# Altium schematic symbol library COMPONENT.SchLib: 111 symbols
Pins are listed as number, name and electrical type; pins without a type are passive.

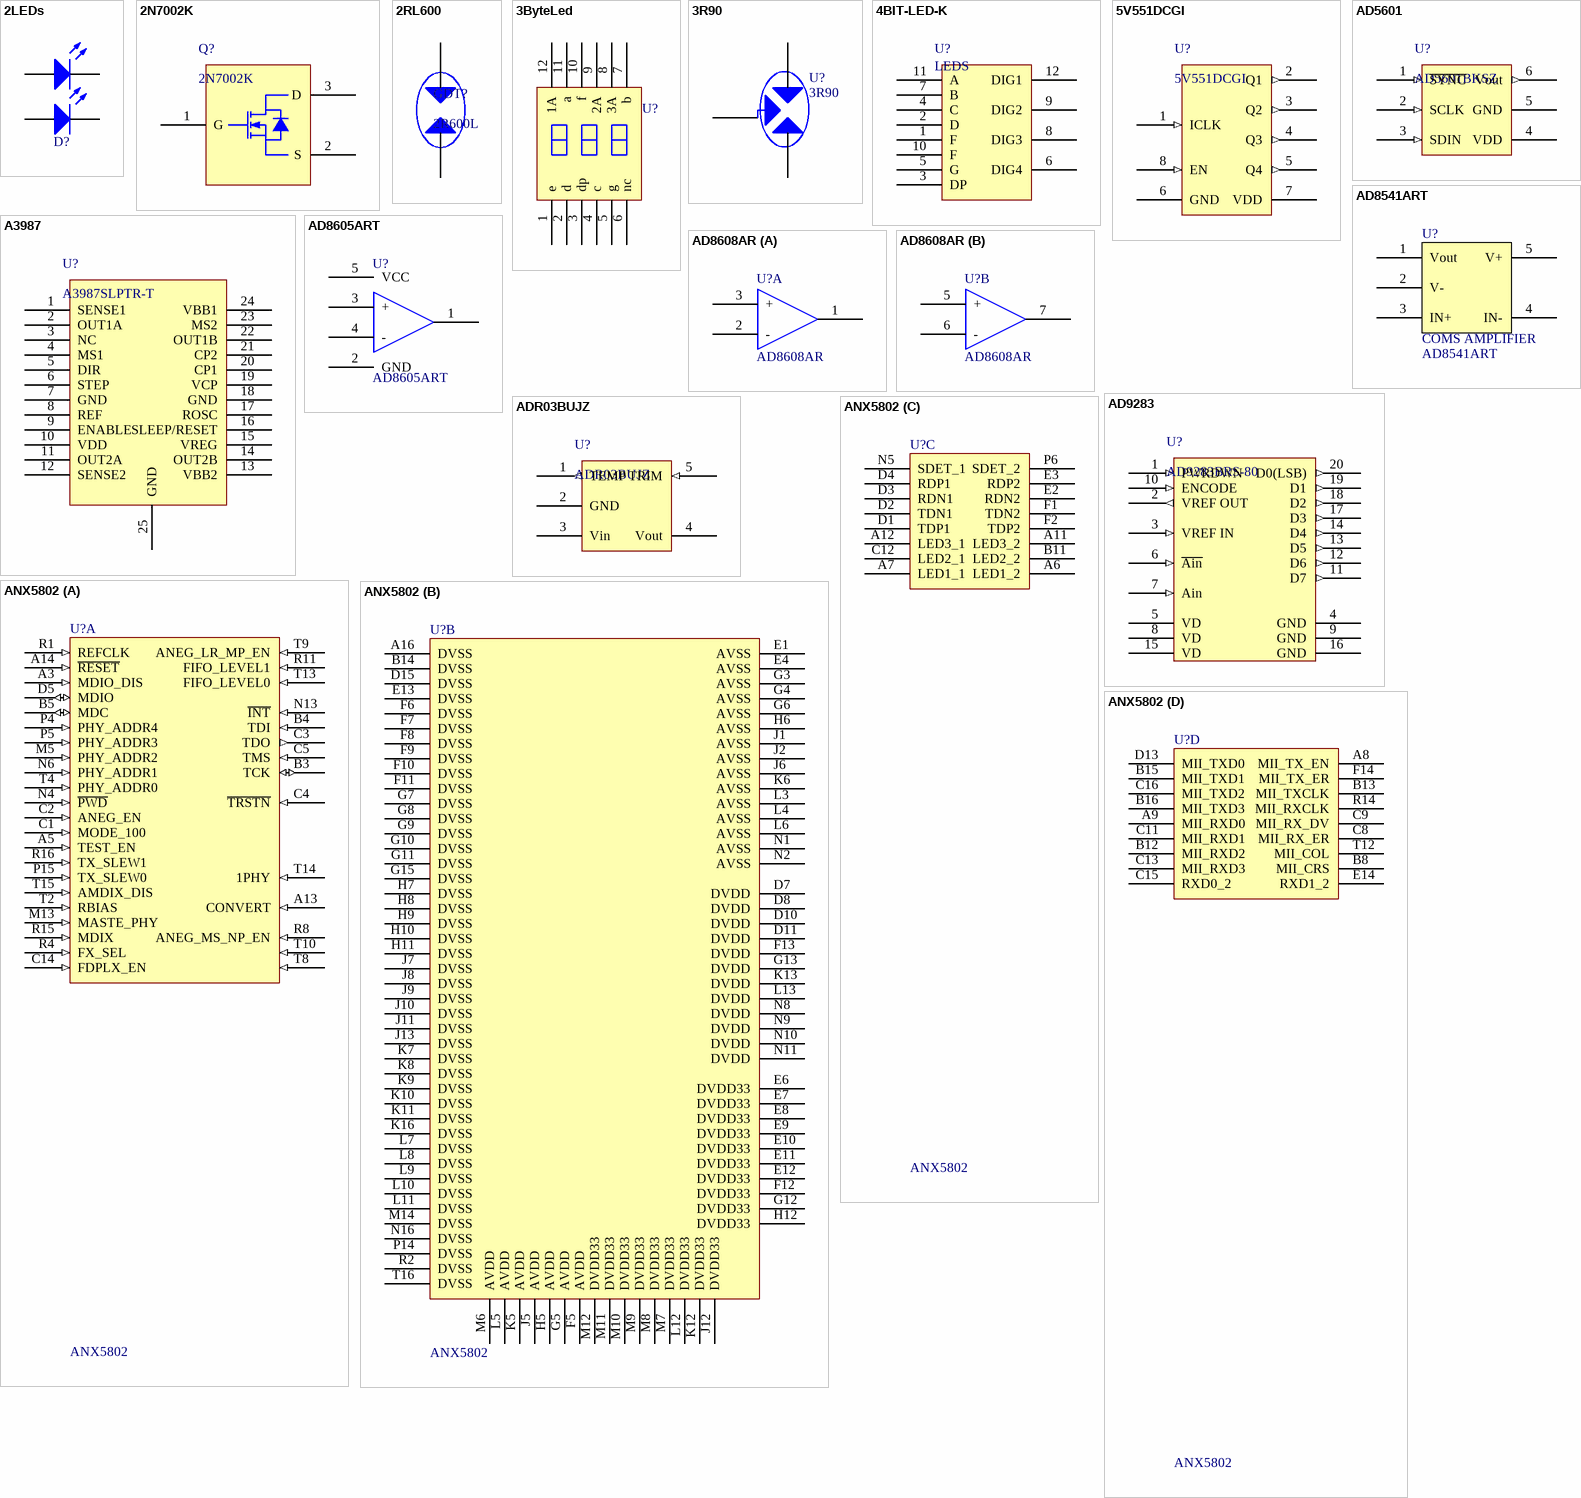
[diagram p0: symbols 2LEDs to ANX5802]

## 2LEDs
designator D?, comment 2 LED Jack  (value not drawn)
Value: Leds
footprint LED_JACK2 (TWO LEDS VERTICAL)
pins: 1 A, 2 K, 3 A, 4 K

## 2N7002K
designator Q?
N-CHANNEL 60-V MOSFET
footprint SO-G3 (SOT-23; 3 Leads; Body 3.0 x 2.6 mm, inc. leads (LxW max))
pins: 1 G, 2 S, 3 D

## 2RL600
designator GDT?, comment 2R600L
footprint 2RM600
pins: 1, 2

## 3ByteLed
designator U?, comment 3 Byte Led Didsplay  (value not drawn)
7-Segment Display 3Byte
footprint 3B/LED
pins: 1 e, 2 d, 3 dp, 4 c, 5 g, 6 nc, 7 b, 8 3A, 9 2A, 10 f, 11 a, 12 1A

## 3R90
designator U?, comment value 3R90  (hidden comment: SURGE ARRESTER)
footprint 3r90 (Surge arrester)
pins: 1, 2, 3

## 4BIT-LED-K
designator U?, comment LEDS
4位共阴7段数码管
footprint 4bit_LEDs (4位共阴LED)
pins: 1 F, 2 D, 3 DP, 4 C, 5 G, 6 DIG4, 7 B, 8 DIG3, 9 DIG2, 10 F, 11 A, 12 DIG1

## 5V551DCGI
designator U?
1:4 CLOCK BUFFER; MANUFACTOR: IDT
footprint SOP8 (Small Outline; 8 Leads; Body Width 4.3 mm; Pitch 1.27 mm)
pins: 1 ICLK (in), 2 Q1 (out), 3 Q2 (out), 4 Q3 (out), 5 Q4 (out), 6 GND (power), 7 VDD (power), 8 EN (in)

## A3987
designator U?, comment A3987SLPTR-T
DMOS MICROSTEPPING DRIVER
footprint TSOP65P640X120_HS-24M (TSOP, 24-Leads, Body 7.8x4.4mm (max), Pitch 0.65mm, IPC Low Density)
pins: 1 SENSE1, 2 OUT1A, 3 NC, 4 MS1, 5 DIR, 6 STEP, 7 GND, 8 REF, 9 ENABLE, 10 VDD, 11 OUT2A, 12 SENSE2, 13 VBB2, 14 OUT2B, 15 VREG, 16 SLEEP/RESET, 17 ROSC, 18 GND, 19 VCP, 20 CP1, 21 CP2, 22 OUT1B, 23 MS2, 24 VBB1, 25 GND

## AD5601
designator U?, comment AD5601BKSZ
nanoDAC SPI INTERFACE
footprint SOT363-6N (SOT363, 6-Leads, Body 2x1.3mm, Pitch 0.65mm, Lead Span 2.1mm, IPC Medium Density)
pins: 1 ~{SYNC} (in), 2 SCLK (in), 3 SDIN (in), 4 VDD (power), 5 GND (power), 6 Vout (out)

## AD8541ART
designator U?, comment COMS AMPLIFIER  value AD8541ART
footprint SO-G5/P.95 (SOT-23/SC-74A; 5 Leads; Body 3.1 x 3 mm, inc. leads (LxW max))
pins: 1 Vout, 2 V-, 3 IN+, 4 IN-, 5 V+

## AD8605ART
designator U?
footprint SO-G5/X.5 (SOT-23/SC-74A; 5 Leads; Body 3 x 3 mm, inc. leads (LxW max))
pins: 1 OUT (power), 2 GND (power), 3 + (power), 4 - (power), 5 VCC (power)

## AD8608AR
designator U?
footprint SO-G8 (Small Outline; 8 Leads; Body Width 3.9 mm; Pitch 1.27 mm)
pins on every part: 4 GND (power) hidden, 8 VCC (power) hidden
part A pins: 1 OUT (power), 2 - (power), 3 + (power)
part B pins: 5 + (power), 6 - (power), 7 OUT (power)

## AD9283
designator U?, comment AD9283BRS-80
8-BIT 80MSPS A/D CONVERTER
footprint TSOP65P640-20AM (TSOP, 20-Leads, Body 6.5x4.4mm, Pitch 0.65mm, IPC Low Density)
pins: 1 PWRDWN (in), 2 VREF OUT (out), 3 VREF IN (in), 4 GND (power), 5 VD (power), 6 ~{Ain} (in), 7 Ain (in), 8 VD (power), 9 GND (power), 10 ENCODE (in), 11 D7 (out), 12 D6 (out), 13 D5 (out), 14 D4 (out), 15 VD (power), 16 GND (power), 17 D3 (out), 18 D2 (out), 19 D1 (out), 20 D0(LSB) (out)

## ADR03BUJZ
designator U?
PRECISION VOLTAGE REFERENCE
footprint SOT23-5AL (SOT23, 5-Leads, Body 2.9x1.6mm, Pitch 0.95mm, Lead Span 2.8mm, IPC High Density)
pins: 1 TEMP (out), 2 GND, 3 Vin, 4 Vout, 5 TRIM (in)

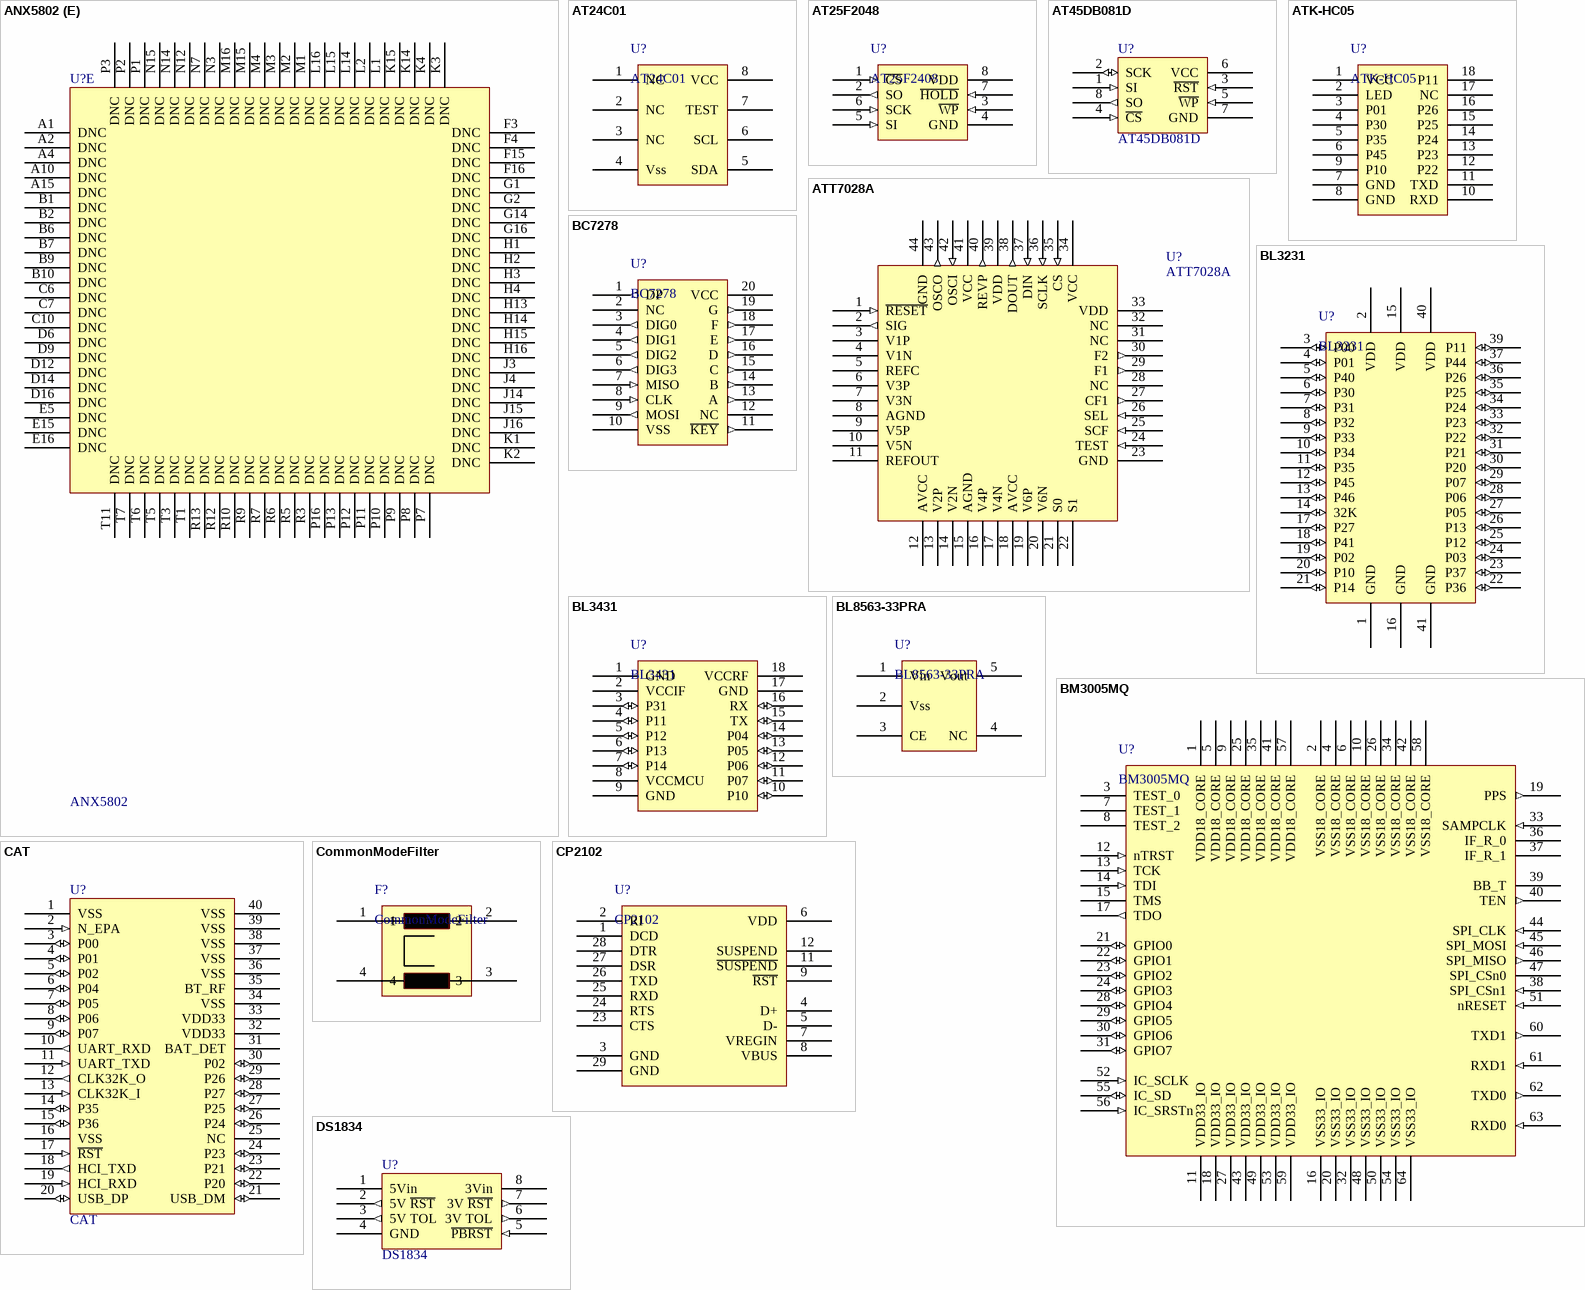
[diagram p1: symbols ANX5802 to DS1834]

## ANX5802
designator U?
SINGLE PORT LRE PHY/CONVERTER
footprint 256BGA (BGA FOR ANX58XX)
part A pins: A3 MDIO_DIS (in), A5 TEST_EN (in), A13 CONVERT (in), A14 ~{RESET} (in), B3 TCK (io), B4 TDI (in), B5 MDC (io), C1 MODE_100 (in), C2 ANEG_EN (in), C3 TDO (out), C4 ~{TRSTN} (in), C5 TMS (in), C14 FDPLX_EN (in), D5 MDIO (io), M5 PHY_ADDR2 (in), M13 MASTE_PHY (in), N4 ~{PWD} (in), N6 PHY_ADDR1 (in), N13 ~{INT} (in), P4 PHY_ADDR4 (in), P5 PHY_ADDR3 (in), P15 TX_SLEW0 (in), R1 REFCLK (in), R4 FX_SEL (in), R8 ANEG_MS_NP_EN (in), R11 FIFO_LEVEL1 (in), R15 MDIX (in), R16 TX_SLEW1 (in), T2 RBIAS (in), T4 PHY_ADDR0 (in), T8 (in), T9 ANEG_LR_MP_EN (in), T10 (in), T13 FIFO_LEVEL0 (in), T14 1PHY (in), T15 AMDIX_DIS (in)
part B pins: A16 DVSS (power), B14 DVSS (power), D7 DVDD (power), D8 DVDD (power), D10 DVDD (power), D11 DVDD (power), D15 DVSS (power), E1 AVSS (power), E4 AVSS (power), E6 DVDD33 (power), E7 DVDD33 (power), E8 DVDD33 (power), E9 DVDD33 (power), E10 DVDD33 (power), E11 DVDD33 (power), E12 DVDD33 (power), E13 DVSS (power), F5 AVDD (power), F6 DVSS (power), F7 DVSS (power), F8 DVSS (power), F9 DVSS (power), F10 DVSS (power), F11 DVSS (power), F12 DVDD33 (power), F13 DVDD (power), G3 AVSS (power), G4 AVSS (power), G5 AVDD (power), G6 AVSS (power), G7 DVSS (power), G8 DVSS (power), G9 DVSS (power), G10 DVSS (power), G11 DVSS (power), G12 DVDD33 (power), G13 DVDD (power), G15 DVSS (power), H5 AVDD (power), H6 AVSS (power), H7 DVSS (power), H8 DVSS (power), H9 DVSS (power), H10 DVSS (power), H11 DVSS (power), H12 DVDD33 (power), J1 AVSS (power), J2 AVSS (power), J5 AVDD (power), J6 AVSS (power), J7 DVSS (power), J8 DVSS (power), J9 DVSS (power), J10 DVSS (power), J11 DVSS (power), J12 DVDD33 (power), J13 DVSS (power), K5 AVDD (power), K6 AVSS (power), K7 DVSS (power), K8 DVSS (power), K9 DVSS (power), K10 DVSS (power), K11 DVSS (power), K12 DVDD33 (power), K13 DVDD (power), K16 DVSS (power), L3 AVSS (power), L4 AVSS (power), L5 AVDD (power), L6 AVSS (power), L7 DVSS (power), L8 DVSS (power), L9 DVSS (power), L10 DVSS (power), L11 DVSS (power), L12 DVDD33 (power), L13 DVDD (power), M6 AVDD (power), M7 DVDD33 (power), M8 DVDD33 (power), M9 DVDD33 (power), M10 DVDD33 (power), M11 DVDD33 (power), M12 DVDD33 (power), M14 DVSS (power), N1 AVSS (power), N2 AVSS (power), N8 DVDD (power), N9 DVDD (power), N10 DVDD (power), N11 DVDD (power), N16 DVSS (power), P14 DVSS (power), R2 DVSS (power), T16 DVSS (power)
part C pins: A6 LED1_2, A7 LED1_1, A11 LED3_2, A12 LED3_1, B11 LED2_2, C12 LED2_1, D1 TDP1, D2 TDN1, D3 RDN1, D4 RDP1, E2 RDN2, E3 RDP2, F1 TDN2, F2 TDP2, N5 SDET_1, P6 SDET_2
part D pins: A8 MII_TX_EN, A9 MII_RXD0, B8 MII_CRS, B12 MII_RXD2, B13 MII_TXCLK, B15 MII_TXD1, B16 MII_TXD3, C8 MII_RX_ER, C9 MII_RX_DV, C11 MII_RXD1, C13 MII_RXD3, C15 RXD0_2, C16 MII_TXD2, D13 MII_TXD0, E14 RXD1_2, F14 MII_TX_ER, R14 MII_RXCLK, T12 MII_COL
part E pins: A1 DNC, A2 DNC, A4 DNC, A10 DNC, A15 DNC, B1 DNC, B2 DNC, B6 DNC, B7 DNC, B9 DNC, B10 DNC, C6 DNC, C7 DNC, C10 DNC, D6 DNC, D9 DNC, D12 DNC, D14 DNC, D16 DNC, E5 DNC, E15 DNC, E16 DNC, F3 DNC, F4 DNC, F15 DNC, F16 DNC, G1 DNC, G2 DNC, G14 DNC, G16 DNC, H1 DNC, H2 DNC, H3 DNC, H4 DNC, H13 DNC, H14 DNC, H15 DNC, H16 DNC, J3 DNC, J4 DNC, J14 DNC, J15 DNC, J16 DNC, K1 DNC, K2 DNC, K3 DNC, K4 DNC, K14 DNC, K15 DNC, L1 DNC, L2 DNC, L14 DNC, L15 DNC, L16 DNC, M1 DNC, M2 DNC, M3 DNC, M4 DNC, M15 DNC, M16 DNC, N3 DNC, N7 DNC, N12 DNC, N14 DNC, N15 DNC, P1 DNC, P2 DNC, P3 DNC, P7 DNC, P8 DNC, P9 DNC, P10 DNC, P11 DNC, P12 DNC, P13 DNC, P16 DNC, R3 DNC, R5 DNC, R6 DNC, R7 DNC, R9 DNC, R10 DNC, R12 DNC, R13 DNC, T1 DNC, T3 DNC, T5 DNC, T6 DNC, T7 DNC, T11 DNC

## AT24C01
designator U?
footprint SO-G8 (Small Outline; 8 Leads; Body Width 3.9 mm; Pitch 1.27 mm)
pins: 1 NC, 2 NC, 3 NC, 4 Vss, 5 SDA, 6 SCL, 7 TEST, 8 VCC

## AT25F2048
designator U?, comment AT25F2408
2M BIT SPI FLASH
footprint SOP127P780-8M (SOP, 8-Leads, Body 5.3x5.3mm, Pitch 1.27mm, IPC Low Density)
pins: 1 ~{CS} (in), 2 SO (out), 3 ~{WP} (in), 4 GND (power), 5 SI (in), 6 SCK (in), 7 ~{HOLD} (in), 8 VDD (power)

## AT45DB081D
designator U?
8 MB DATA FLASH; Company: AT
footprint SO-G8 (Small Outline; 8 Leads; Body Width 3.9 mm; Pitch 1.27 mm)
pins: 1 SI (in), 2 SCK (io), 3 ~{RST} (in), 4 ~{CS} (in), 5 ~{WP} (in), 6 VCC (power), 7 GND (power), 8 SO (out)

## ATK-HC05
designator U?
蓝牙模块
footprint atk-hc05 (蓝牙转串口模块)
pins: 1 VCC, 2 LED, 3 P01, 4 P30, 5 P35, 6 P45, 7 GND, 8 GND, 9 P10, 10 RXD, 11 TXD, 12 P22, 13 P23, 14 P24, 15 P25, 16 P26, 17 NC, 18 P11

## ATT7028A
designator U?
ENERGY METER
footprint QFP10x10-G44/G10N (QFP, Metric; 44 Leads; Body 10 x 10 mm; Pitch 0.8 mm)
pins: 1 ~{RESET} (in), 2 SIG (out), 3 V1P, 4 V1N, 5 REFC (power), 6 V3P, 7 V3N, 8 AGND (power), 9 V5P, 10 V5N, 11 REFOUT (power), 12 AVCC (power), 13 V2P, 14 V2N, 15 AGND (power), 16 V4P, 17 V4N, 18 AVCC (power), 19 V6P, 20 V6N, 21 S0, 22 S1, 23 GND (power), 24 TEST (in), 25 SCF (in), 26 SEL (in), 27 CF1 (out), 28 NC, 29 F1 (out), 30 F2 (out), 31 NC, 32 NC, 33 VDD (power), 34 VCC (power), 35 CS (in), 36 SCLK (in), 37 DIN (in), 38 DOUT (out), 39 VDD (power), 40 REVP (out), 41 VCC (power), 42 OSCI (in), 43 OSCO (out), 44 GND (power)

## BC7278
designator U?
4位数码管驱动+键盘
footprint SOP65P780X173-20N (SOP, 20-Leads, Body 7.2x5.3mm (max), Pitch 0.65mm, IPC Medium Density)
pins: 1 DP (out), 2 NC, 3 DIG0 (out), 4 DIG1 (out), 5 DIG2 (out), 6 DIG3 (out), 7 MISO (in), 8 CLK (in), 9 MOSI (out), 10 VSS, 11 ~{KEY} (out), 12 NC, 13 A (out), 14 B (out), 15 C (out), 16 D (out), 17 E (out), 18 F (out), 19 G (out), 20 VCC

## BL3231
designator U?
蓝牙模块
footprint BL3231 (蓝牙模块)
pins: 1 GND, 2 VDD, 3 P00 (io), 4 P01 (io), 5 P40 (io), 6 P30 (io), 7 P31 (io), 8 P32 (io), 9 P33 (io), 10 P34 (io), 11 P35 (io), 12 P45 (io), 13 P46 (io), 14 32K (io), 15 VDD, 16 GND, 17 P27 (io), 18 P41 (io), 19 P02 (io), 20 P10 (io), 21 P14 (io), 22 P36 (io), 23 P37 (io), 24 P03 (io), 25 P12 (io), 26 P13 (io), 27 P05 (io), 28 P06 (io), 29 P07 (io), 30 P20 (io), 31 P21 (io), 32 P22 (io), 33 P23 (io), 34 P24 (io), 35 P25 (io), 36 P26 (io), 37 P44 (io), 39 P11 (io), 40 VDD, 41 GND

## BL3431
designator U?
蓝牙模块
footprint bl3431s (蓝牙模块)
pins: 1 GND, 2 VCCIF, 3 P31 (io), 4 P11 (io), 5 P12 (io), 6 P13 (io), 7 P14 (io), 8 VCCMCU, 9 GND, 10 P10 (io), 11 P07 (io), 12 P06 (io), 13 P05 (io), 14 P04 (io), 15 TX (io), 16 RX (io), 17 GND, 18 VCCRF

## BL8563-33PRA
designator U?
footprint SOT23-5AM (SOT23, 5-Leads, Body 2.9x1.7mm, Pitch 0.95mm, Lead Span 2.8mm, IPC Low Density)
pins: 1 Vin, 2 Vss, 3 CE, 4 NC, 5 Vout

## BM3005MQ
designator U?
RDSS Base Band Chip
footprint SQFP50P1200X1200-64L (Shrink QFP, 64-Leads, Body 10x10mm, Pitch 0.5mm, IPC High Density)
pins: 1 VDD18_CORE (power), 2 VSS18_CORE (power), 3 TEST_0, 4 VSS18_CORE (power), 5 VDD18_CORE (power), 6 VSS18_CORE (power), 7 TEST_1, 8 TEST_2, 9 VDD18_CORE (power), 10 VSS18_CORE (power), 11 VDD33_IO (power), 12 nTRST (in), 13 TCK (in), 14 TDI (in), 15 TMS, 16 VSS33_IO (power), 17 TDO (out), 18 VDD33_IO (power), 19 PPS (out), 20 VSS33_IO (power), 21 GPIO0 (io), 22 GPIO1 (io), 23 GPIO2 (io), 24 GPIO3 (io), 25 VDD18_CORE (power), 26 VSS18_CORE (power), 27 VDD33_IO (power), 28 GPIO4 (io), 29 GPIO5 (io), 30 GPIO6 (io), 31 GPIO7 (io), 32 VSS33_IO (power), 33 SAMPCLK (in), 34 VSS18_CORE (power), 35 VDD18_CORE (power), 36 IF_R_0, 37 IF_R_1, 38 SPI_CSn1 (in), 39 BB_T, 40 TEN (out), 41 VDD18_CORE (power), 42 VSS18_CORE (power), 43 VDD33_IO (power), 44 SPI_CLK (in), 45 SPI_MOSI (in), 46 SPI_MISO (out), 47 SPI_CSn0, 48 VSS33_IO (power), 49 VDD33_IO (power), 50 VSS33_IO (power), 51 nRESET (in), 52 IC_SCLK (in), 53 VDD33_IO (power), 54 VSS33_IO (power), 55 IC_SD (io), 56 IC_SRSTn (in), 57 VDD18_CORE (power), 58 VSS18_CORE (power), 59 VDD33_IO (power), 60 TXD1 (out), 61 RXD1 (in), 62 TXD0 (out), 63 RXD0 (in), 64 VSS33_IO (power)

## CAT
designator U?, comment value CAT  (hidden comment: BLUETOOTH)
BLUETOOTH MODULE; Company: ISSC
footprint CAT MODULE (FOR ISS CAT MODULE)
pins: 1 VSS (power), 2 N_EPA (in), 3 P00 (io), 4 P01 (io), 5 P02 (io), 6 P04 (io), 7 P05 (io), 8 P06 (io), 9 P07 (io), 10 UART_RXD (out), 11 UART_TXD (in), 12 CLK32K_O (out), 13 CLK32K_I (in), 14 P35 (io), 15 P36 (io), 16 VSS (power), 17 ~{RST} (in), 18 HCI_TXD (out), 19 HCI_RXD (in), 20 USB_DP (io), 21 USB_DM (io), 22 P20 (io), 23 P21 (io), 24 P23 (io), 25 NC, 26 P24 (io), 27 P25 (io), 28 P27 (io), 29 P26 (io), 30 P02 (io), 31 BAT_DET (power), 32 VDD33 (power), 33 VDD33 (power), 34 VSS (power), 35 BT_RF (power), 36 VSS (power), 37 VSS (power), 38 VSS (power), 39 VSS (power), 40 VSS (power)

## CommonModeFilter
designator F?
footprint LFU1005V07 (COMMON MODE FILTER)
pins: 1, 2, 3, 4

## CP2102
designator U?
USB BRIDGE
footprint QFN-28
pins: 1 DCD, 2 RI, 3 GND, 4 D+, 5 D-, 6 VDD, 7 VREGIN, 8 VBUS, 9 ~{RST}, 11 ~{SUSPEND}, 12 SUSPEND, 23 CTS, 24 RTS, 25 RXD, 26 TXD, 27 DSR, 28 DTR, 29 GND

## DS1834
designator U?
footprint SO-G8 (Small Outline; 8 Leads; Body Width 3.9 mm; Pitch 1.27 mm)
pins: 1 5Vin (power), 2 5V ~{RST} (out), 3 5V TOL (out), 4 GND (power), 5 ~{PBRST} (in), 6 3V TOL (out), 7 3V ~{RST} (out), 8 3Vin (power)

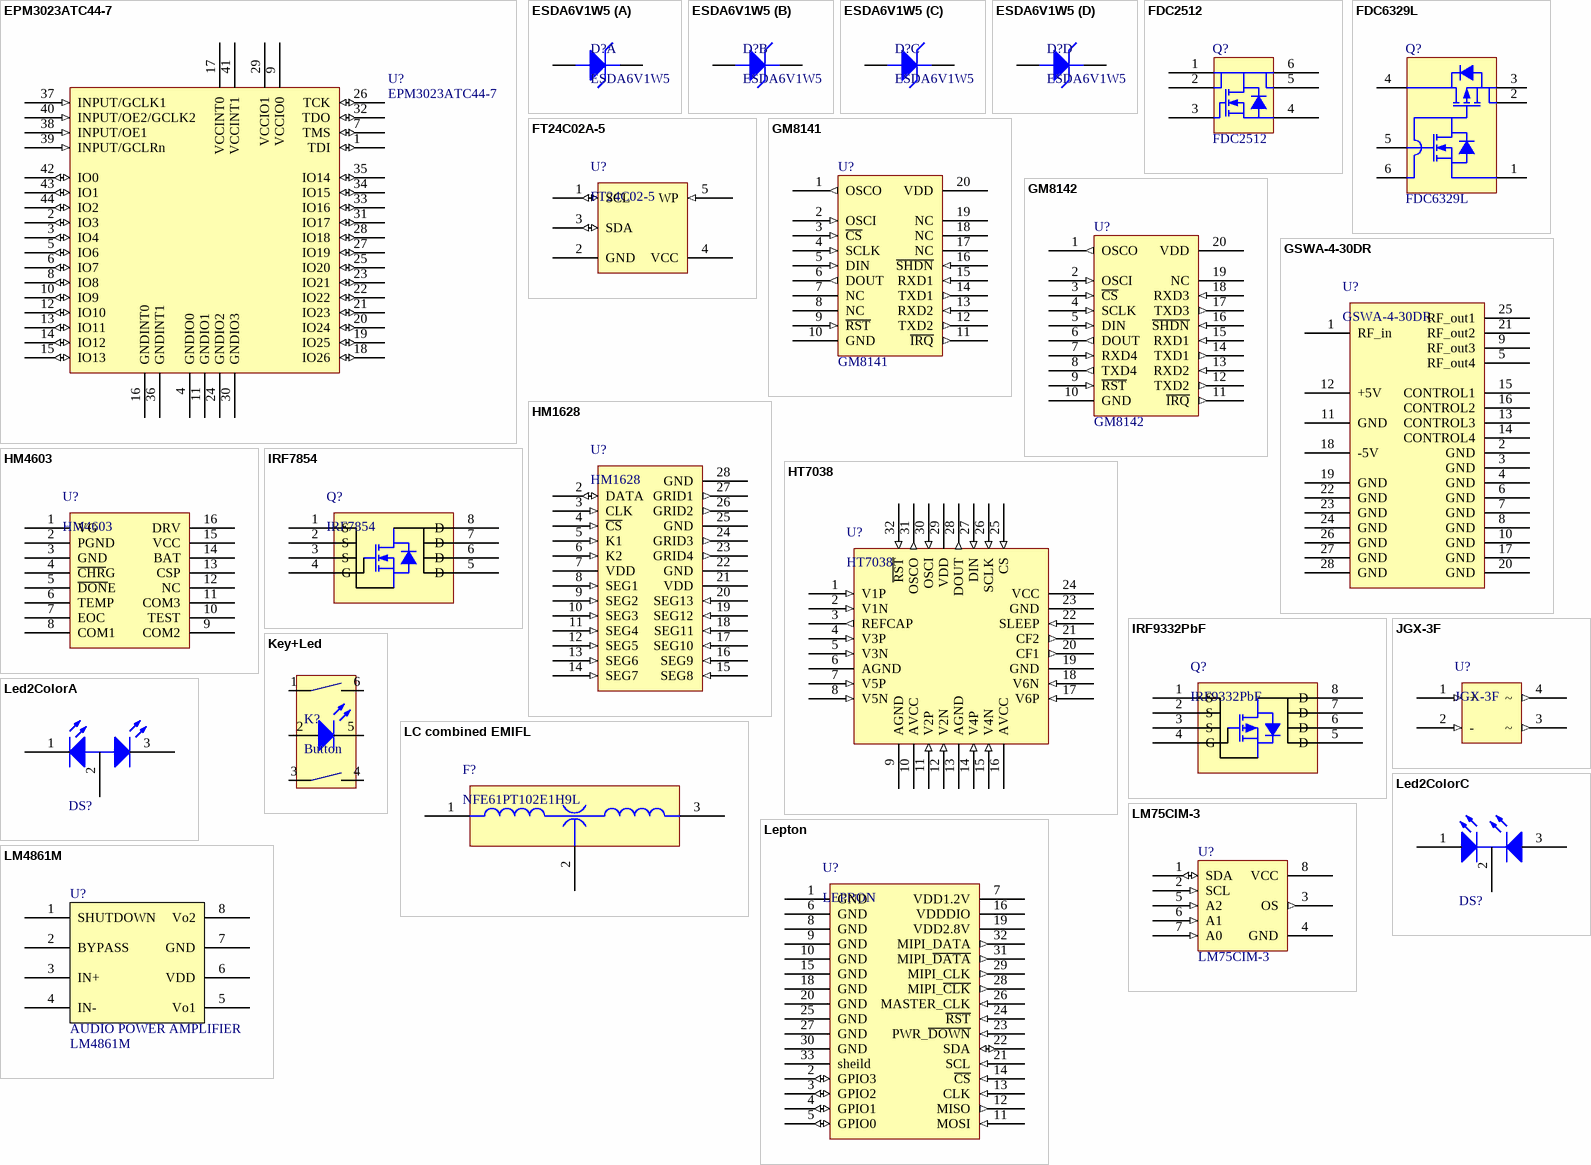
[diagram p2: symbols EPM3023ATC44-7 to LM4861M]

## EPM3023ATC44-7
designator U?
footprint QFP10x10-G44/G10N (QFP, Metric; 44 Leads; Body 10 x 10 mm; Pitch 0.8 mm)
pins: 1 TDI (io), 2 IO3 (io), 3 IO4 (io), 4 GNDIO0 (power), 5 IO6 (io), 6 IO7 (io), 7 TMS (io), 8 IO8 (io), 9 VCCIO0 (power), 10 IO9 (io), 11 GNDIO1 (power), 12 IO10 (io), 13 IO11 (io), 14 IO12 (io), 15 IO13 (io), 16 GNDINT0 (power), 17 VCCINT0 (power), 18 IO26 (io), 19 IO25 (io), 20 IO24 (io), 21 IO23 (io), 22 IO22 (io), 23 IO21 (io), 24 GNDIO2 (power), 25 IO20 (io), 26 TCK (io), 27 IO19 (io), 28 IO18 (io), 29 VCCIO1 (power), 30 GNDIO3 (power), 31 IO17 (io), 32 TDO (io), 33 IO16 (io), 34 IO15 (io), 35 IO14 (io), 36 GNDINT1 (power), 37 INPUT/GCLK1 (in), 38 INPUT/OE1 (in), 39 INPUT/GCLRn (in), 40 INPUT/OE2/GCLK2 (in), 41 VCCINT1 (power), 42 IO0 (io), 43 IO1 (io), 44 IO2 (io)

## ESDA6V1W5
designator D?
QUAL TRANSIL ARRAY FOR ESD PROTECTION; MANUFACTOR: ST
footprint SO-G5/P.65 (SOT-353/SC-88A; 5 Leads; Body 2.1 x 2.4 mm, inc. leads (LxW max))
part A pins: 1, 2
part B pins: 2, 3
part C pins: 2, 4
part D pins: 2, 5

## FDC2512
designator Q?
footprint SuperSOT-6 (FOR FDC2512)
pins: 1 D, 2 D, 3 G, 4 S, 5 D, 6 D

## FDC6329L
designator Q?
LOAD SWITCH
footprint SO-G6/P.95 (SOT-457/SC-74; 6 Leads; Body 3.1 x 3 mm, inc. leads (LxW max))
pins: 1 S2, 2 VOUT (power), 3 VOUT (power), 4 VIN (power), 5 G2, 6 D2

## FT24C02A-5
designator U?, comment FT24C02-5
EEPROM
footprint SOT23-5AM (SOT23, 5-Leads, Body 2.9x1.7mm, Pitch 0.95mm, Lead Span 2.8mm, IPC Low Density)
pins: 1 SCL (io), 2 GND, 3 SDA (io), 4 VCC, 5 WP (in)

## GM8141
designator U?
Company: 成都国腾; Value: GM8141
footprint SO-G20 (Small Outline; 20 Leads; Body Width 7.5 mm; Pitch 1.27 mm)
pins: 1 OSCO (out), 2 OSCI (in), 3 ~{CS} (in), 4 SCLK (in), 5 DIN (in), 6 DOUT (out), 7 NC, 8 NC, 9 ~{RST} (in), 10 GND (power), 11 ~{IRQ} (out), 12 TXD2 (out), 13 RXD2 (in), 14 TXD1 (out), 15 RXD1 (in), 16 ~{SHDN} (in), 17 NC, 18 NC, 19 NC, 20 VDD (power)

## GM8142
designator U?
I2C to UART
footprint SO-G20 (Small Outline; 20 Leads; Body Width 7.5 mm; Pitch 1.27 mm)
pins: 1 OSCO (out), 2 OSCI (in), 3 ~{CS} (in), 4 SCLK (in), 5 DIN (in), 6 DOUT (out), 7 RXD4 (in), 8 TXD4 (out), 9 ~{RST} (in), 10 GND (power), 11 ~{IRQ} (out), 12 TXD2 (out), 13 RXD2 (in), 14 TXD1 (out), 15 RXD1 (in), 16 ~{SHDN} (in), 17 TXD3 (out), 18 RXD3 (in), 19 NC, 20 VDD (power)

## GSWA-4-30DR
designator U?
50Ohm SP4T,TTL Driver
footprint GSWAQFP28 (FOOTPRINT for GSWA-4-30DR)
pins: 1 RF_in, 2 GND, 3 GND, 4 GND, 5 RF_out4, 6 GND, 7 GND, 8 GND, 9 RF_out3, 10 GND, 11 GND, 12 +5V, 13 CONTROL3, 14 CONTROL4, 15 CONTROL1, 16 CONTROL2, 17 GND, 18 -5V, 19 GND, 20 GND, 21 RF_out2, 22 GND, 23 GND, 24 GND, 25 RF_out1, 26 GND, 27 GND, 28 GND

## HM1628
designator U?
4位LED驱动
footprint SOIC127P1199-28AL (SOIC, 28-Leads, Body 18.4x7.5mm, Pitch 1.27mm, IPC High Density)
pins: 2 DATA (io), 3 CLK (in), 4 ~{CS} (in), 5 K1 (in), 6 K2 (in), 7 VDD, 8 SEG1 (in), 9 SEG2 (in), 10 SEG3 (in), 11 SEG4 (in), 12 SEG5 (in), 13 SEG6 (in), 14 SEG7 (in), 15 SEG8 (in), 16 SEG9 (in), 17 SEG10 (in), 18 SEG11 (in), 19 SEG12 (in), 20 SEG13 (in), 21 VDD, 22 GND, 23 GRID4 (out), 24 GRID3 (out), 25 GND, 26 GRID2 (out), 27 GRID1 (out), 28 GND

## HM4603
designator U?
锂电池充电管理
footprint TSSO5x6-G16 (Shrink Small Outline; 16 Leads; Body Width 4.4 mm; Pitch 0.65 mm)
pins: 1 VG, 2 PGND, 3 GND, 4 ~{CHR}G, 5 ~{DON}E, 6 TEMP, 7 EOC, 8 COM1, 9 COM2, 10 TEST, 11 COM3, 12 NC, 13 CSP, 14 BAT, 15 VCC, 16 DRV

## HT7038
designator U?
电能表IC
footprint QFP80P900X900-32N (32-Pin Quad Flat Pack 0.8 mm Pitch)
pins: 1 V1P (in), 2 V1N (in), 3 REFCAP (out), 4 V3P (in), 5 V3N (in), 6 AGND, 7 V5P (in), 8 V5N (in), 9 AGND, 10 AVCC, 11 V2P (in), 12 V2N (in), 13 AGND, 14 V4P (in), 15 V4N (in), 16 AVCC, 17 V6P (in), 18 V6N (in), 19 GND, 20 CF1 (out), 21 CF2 (out), 22 SLEEP (in), 23 GND, 24 VCC, 25 CS (in), 26 SCLK (in), 27 DIN (in), 28 DOUT (out), 29 VDD, 30 OSCI (in), 31 OSCO (out), 32 ~{RST} (in)

## IRF7854
designator Q?
footprint SOIC127P600-8CN (SOIC, 8-Leads, Body 4.9x3.9mm, Pitch 1.27mm, IPC Medium Density)
pins: 1 S, 2 S, 3 S, 4 G, 5 D, 6 D, 7 D, 8 D

## IRF9332PbF
designator Q?
footprint SO-G8 (Small Outline; 8 Leads; Body Width 3.9 mm; Pitch 1.27 mm)
pins: 1 S, 2 S, 3 S, 4 G, 5 D, 6 D, 7 D, 8 D

## JGX-3F
designator U?
固态继电器
footprint jgx-3f (固态继电器)
pins: 1 + (in), 2 - (in), 3 ~ (out), 4 ~ (out)

## Key+Led
designator K?, comment Button
Button with Led
footprint Key+Led (带LED按键)
pins: 1, 2 A, 3 (power), 4 (power), 5 K (power), 6 (power)

## LC combined EMIFL
designator F?, comment NFE61PT102E1H9L
footprint NFE61PT102E1H9L (EMIFL LC combined)
pins: 1 INPUT, 2 GND, 3 OUTPUT

## Led2ColorA
designator DS?, comment 2 Color Led  (value not drawn)
2 Color Led with one anode
footprint Led2Color (3mm diameter)
pins: 1, 2, 3

## Led2ColorC
designator DS?, comment 2 Color LED  (value not drawn)
2 Color LED with one cathode
footprint Led2color (3mm diameter)
pins: 1, 2, 3

## Lepton
designator U?, comment LEPRON
FLIR IR CAMERA
footprint 1050281001 (flir camera)
pins: 1 GND, 2 GPIO3 (io), 3 GPIO2 (io), 4 GPIO1 (io), 5 GPIO0 (io), 6 GND, 7 VDD1.2V, 8 GND, 9 GND, 10 GND, 11 MOSI (in), 12 MISO (out), 13 CLK (in), 14 ~{CS} (in), 15 GND, 16 VDDDIO, 18 GND, 19 VDD2.8V, 20 GND, 21 SCL (in), 22 SDA (io), 23 PWR_~{DOWN} (in), 24 ~{RST} (in), 25 GND, 26 MASTER_CLK (in), 27 GND, 28 MIPI_~{CLK} (out), 29 MIPI_CLK (out), 30 GND, 31 MIPI_~{DATA} (out), 32 MIPI_DATA (out), 33 sheild

## LM75CIM-3
designator U?
footprint SO-G8 (Small Outline; 8 Leads; Body Width 3.9 mm; Pitch 1.27 mm)
pins: 1 SDA (io), 2 SCL (in), 3 OS (out), 4 GND (power), 5 A2 (in), 6 A1 (in), 7 A0 (in), 8 VCC (power)

## LM4861M
designator U?, comment AUDIO POWER AMPLIFIER  value LM4861M
footprint SO-G8/D5 (Small Outline, Narrow; 8 Leads; Body Width 3.9 mm; Pitch 1.27 mm)
pins: 1 SHUTDOWN, 2 BYPASS, 3 IN+, 4 IN-, 5 Vo1, 6 VDD (power), 7 GND (power), 8 Vo2

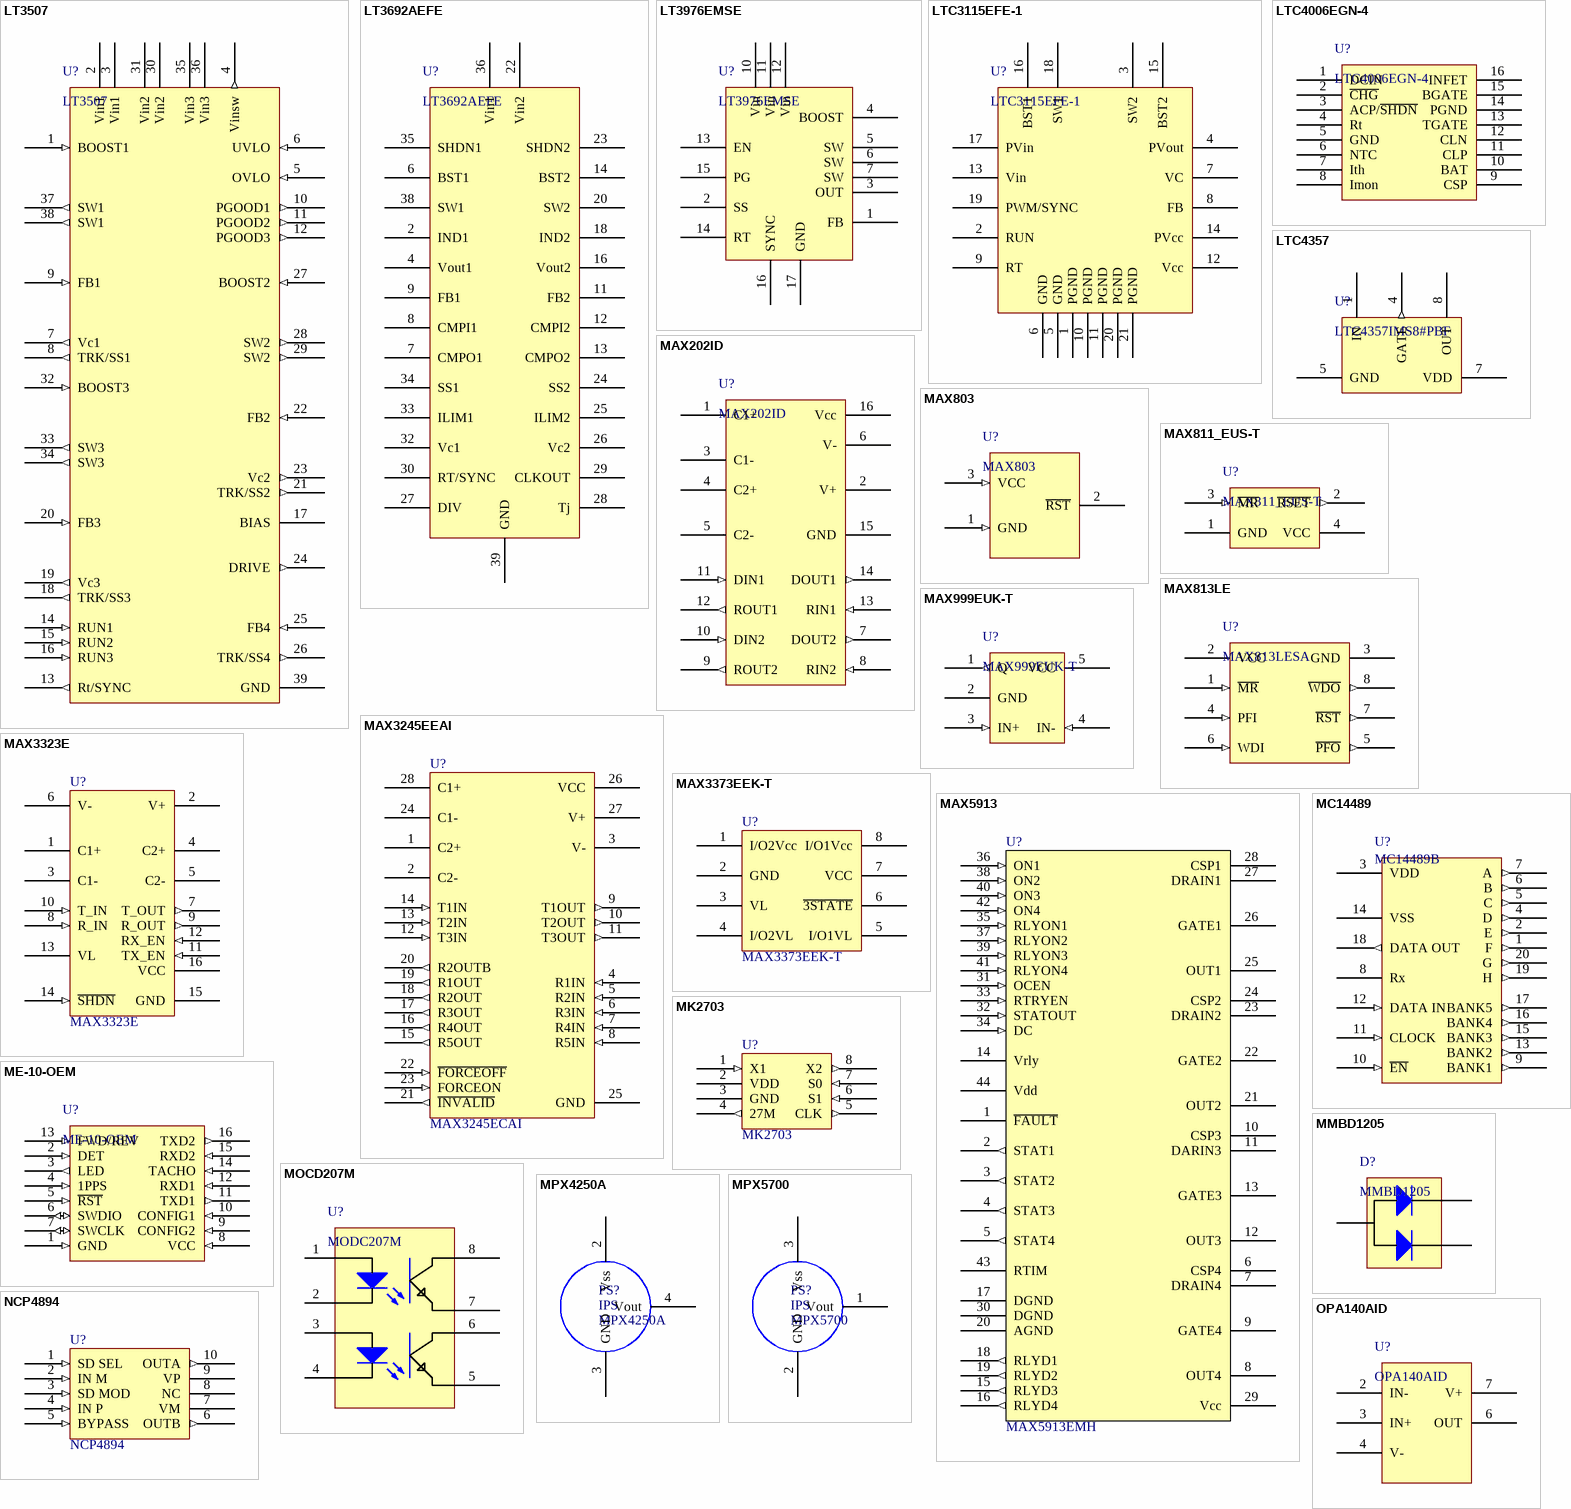
[diagram p3: symbols LT3507 to OPA140AID]

## LT3507
designator U?
Triple Monolithic Step-down Regulator with LDO
footprint QFN38 (For LT3507F)
pins: 1 BOOST1 (in), 2 Vin1 (power), 3 Vin1 (power), 4 Vinsw (out), 5 OVLO (in), 6 UVLO (in), 7 Vc1 (out), 8 TRK/SS1 (out), 9 FB1 (in), 10 PGOOD1 (out), 11 PGOOD2 (out), 12 PGOOD3 (out), 13 Rt/SYNC (out), 14 RUN1 (in), 15 RUN2 (in), 16 RUN3 (in), 17 BIAS (power), 18 TRK/SS3 (out), 19 Vc3 (out), 20 FB3 (in), 21 TRK/SS2 (out), 22 FB2 (in), 23 Vc2 (out), 24 DRIVE (out), 25 FB4 (in), 26 TRK/SS4 (out), 27 BOOST2 (in), 28 SW2 (out), 29 SW2 (out), 30 Vin2 (power), 31 Vin2 (power), 32 BOOST3 (in), 33 SW3 (out), 34 SW3 (out), 35 Vin3 (power), 36 Vin3 (power), 37 SW1 (out), 38 SW1 (out), 39 GND (power)

## LT3692AEFE
designator U?
3.5A STEP-DOWN DAUL OUTPUTS
footprint TSSOP38-FE (LINEAR BODY WIDTH 4.4MM)
pins: 2 IND1, 4 Vout1, 6 BST1, 7 CMPO1, 8 CMPI1, 9 FB1, 11 FB2, 12 CMPI2, 13 CMPO2, 14 BST2, 16 Vout2, 18 IND2, 20 SW2, 22 Vin2, 23 SHDN2, 24 SS2, 25 ILIM2, 26 Vc2, 27 DIV, 28 Tj, 29 CLKOUT, 30 RT/SYNC, 32 Vc1, 33 ILIM1, 34 SS1, 35 SHDN1, 36 Vin1, 38 SW1, 39 GND

## LT3976EMSE
designator U?
40V,5A STEP DOWN SWITCH REGULATOR
footprint MSOP16-MSE (Footprint not found)
pins: 1 FB, 2 SS, 3 OUT, 4 BOOST, 5 SW, 6 SW, 7 SW, 10 Vin, 11 Vin, 12 Vin, 13 EN, 14 RT, 15 PG, 16 SYNC, 17 GND

## LTC3115EFE-1
designator U?
footprint TSSOP20-FE (LINEAR FE PACKAGE)
pins: 1 PGND, 2 RUN, 3 SW2, 4 PVout, 5 GND, 6 GND, 7 VC, 8 FB, 9 RT, 10 PGND, 11 PGND, 12 Vcc, 13 Vin, 14 PVcc, 15 BST2, 16 BST1, 17 PVin, 18 SW1, 19 PWM/SYNC, 20 PGND, 21 PGND

## LTC4006EGN-4
designator U?
footprint SSOP16-GN (LINEAR GN NARROW 150MIL)
pins: 1 DCIN, 2 ~{CHG}, 3 ACP/~{SHDN}, 4 Rt, 5 GND, 6 NTC, 7 Ith, 8 Imon, 9 CSP, 10 BAT, 11 CLP, 12 CLN, 13 TGATE, 14 PGND, 15 BGATE, 16 INFET

## LTC4357
designator U?, comment LTC4357IMS8#PBF
POSITIVE HIGH VOLTAGE IDEAL DIODE CONTROLLER
footprint MS8 (FOR LINEAR 0.65MM PITCH WIDE 3MM)
pins: 1 IN (power), 4 GATE (out), 5 GND (power), 7 VDD (power), 8 OUT (power)

## MAX202ID
designator U?
232 TO TTL
footprint SO-G16/C5.85 (Small Outline; 16 Leads; Body Width 3.9 mm; Pitch 1.27 mm)
pins: 1 C1+ (power), 2 V+ (power), 3 C1- (power), 4 C2+ (power), 5 C2- (power), 6 V- (power), 7 DOUT2 (out), 8 RIN2 (in), 9 ROUT2 (out), 10 DIN2 (in), 11 DIN1 (in), 12 ROUT1 (out), 13 RIN1 (in), 14 DOUT1 (out), 15 GND (power), 16 Vcc (power)

## MAX803
designator U?
电压监控复位芯片
footprint SO-G3 (SOT-23; 3 Leads; Body 3.0 x 2.6 mm, inc. leads (LxW max))
pins: 1 GND (in), 2 ~{RST} (oc), 3 VCC (in)

## MAX811_EUS-T
designator U?
uP Voltage monitors with manual reset input
footprint SOT143 (SOT-143; 4 Leads; Body 3 x 2.6 mm, inc. leads (LxW max))
pins: 1 GND (power), 2 ~{RSET} (out), 3 ~{MR} (in), 4 VCC (power)

## MAX813LE
designator U?, comment MAX813LESA
复位芯片
footprint SO-G8 (Small Outline; 8 Leads; Body Width 3.9 mm; Pitch 1.27 mm)
pins: 1 ~{MR} (in), 2 VCC, 3 GND, 4 PFI (in), 5 ~{PFO} (out), 6 WDI (in), 7 ~{RST} (out), 8 ~{WDO} (out)

## MAX999EUK-T
designator U?
ULTRA HIGH SPEED COMPARATOR
footprint SOT23-5AL (SOT23, 5-Leads, Body 2.9x1.6mm, Pitch 0.95mm, Lead Span 2.8mm, IPC High Density)
pins: 1 Q (out), 2 GND (power), 3 IN+ (in), 4 IN- (in), 5 VCC (power)

## MAX3245EEAI
designator U?, comment MAX3245ECAI
footprint SSOP28/W5.3mm (28 LEADS BODY WIDTH 5.3MM)
pins: 1 C2+ (power), 2 C2- (power), 3 V- (power), 4 R1IN (in), 5 R2IN (in), 6 R3IN (in), 7 R4IN (in), 8 R5IN (in), 9 T1OUT (out), 10 T2OUT (out), 11 T3OUT (out), 12 T3IN (in), 13 T2IN (in), 14 T1IN (in), 15 R5OUT (out), 16 R4OUT (out), 17 R3OUT (out), 18 R2OUT (out), 19 R1OUT (out), 20 R2OUTB (out), 21 ~{INVALID} (out), 22 ~{FORCEOFF} (in), 23 FORCEON (in), 24 C1- (power), 25 GND (power), 26 VCC (power), 27 V+ (power), 28 C1+ (power)

## MAX3323E
designator U?, comment value MAX3323E  (hidden comment: RS-232 Transceivers)
Company: MAXIM
footprint TSSO5x6-G16 (Shrink Small Outline; 16 Leads; Body Width 4.4 mm; Pitch 0.65 mm)
pins: 1 C1+, 2 V+, 3 C1-, 4 C2+, 5 C2-, 6 V-, 7 T_OUT (out), 8 R_IN (in), 9 R_OUT (out), 10 T_IN (in), 11 TX_EN (in), 12 RX_EN (in), 13 VL (power), 14 ~{SHDN} (in), 15 GND (power), 16 VCC (power)

## MAX3373EEK-T
designator U?
Low-Voltage Level Translators
footprint SOT23-8L
pins: 1 I/O2Vcc, 2 GND (power), 3 VL (power), 4 I/O2VL, 5 I/O1VL, 6 ~{3STATE}, 7 VCC (power), 8 I/O1Vcc

## MAX5913
designator U?, comment value MAX5913EMH  (hidden comment: PSE Controller)
PoE Controller
footprint QFP10x10-G44/G10N (QFP, Metric; 44 Leads; Body 10 x 10 mm; Pitch 0.8 mm)
pins: 1 ~{FAULT} (oc), 2 STAT1 (out), 3 STAT2 (out), 4 STAT3 (out), 5 STAT4 (out), 6 CSP4, 7 DRAIN4, 8 OUT4, 9 GATE4, 10 CSP3, 11 DARIN3, 12 OUT3, 13 GATE3, 14 Vrly, 15 RLYD3 (out), 16 RLYD4 (out), 17 DGND (power), 18 RLYD1 (out), 19 RLYD2 (out), 20 AGND (power), 21 OUT2, 22 GATE2, 23 DRAIN2, 24 CSP2, 25 OUT1, 26 GATE1, 27 DRAIN1, 28 CSP1, 29 Vcc (power), 30 DGND (power), 31 OCEN (in), 32 STATOUT (in), 33 RTRYEN (in), 34 DC (in), 35 RLYON1 (in), 36 ON1 (in), 37 RLYON2 (in), 38 ON2 (in), 39 RLYON3 (in), 40 ON3 (in), 41 RLYON4 (in), 42 ON4 (in), 43 RTIM, 44 Vdd (power)

## MC14489
designator U?, comment MC14489B
5 CHANNEL LED DRIVER
footprint SO-G20/X.55
pins: 1 F (out), 2 E (out), 3 VDD (power), 4 D (out), 5 C (out), 6 B (out), 7 A (out), 8 Rx, 9 BANK1 (out), 10 ~{EN} (in), 11 CLOCK (in), 12 DATA IN (in), 13 BANK2 (out), 14 VSS (power), 15 BANK3 (out), 16 BANK4 (out), 17 BANK5 (out), 18 DATA OUT (out), 19 H (out), 20 G (out)

## ME-10-OEM
designator U?
惯性导航模块
footprint ME-10-OEM (惯性导航模块)
pins: 1 GND (in), 2 DET (in), 3 LED (out), 4 1PPS (in), 5 ~{RST} (in), 6 SWDIO (io), 7 SWCLK (io), 8 VCC (in), 9 CONFIG2 (in), 10 CONFIG1 (in), 11 TXD1 (out), 12 RXD1 (in), 13 FWD/REV (in), 14 TACHO (in), 15 RXD2 (in), 16 TXD2 (out)

## MK2703
designator U?
footprint SO-G8 (Small Outline; 8 Leads; Body Width 3.9 mm; Pitch 1.27 mm)
pins: 1 X1 (in), 2 VDD (power), 3 GND (power), 4 27M (out), 5 CLK (out), 6 S1 (in), 7 S0 (in), 8 X2 (out)

## MMBD1205
designator D?
DUAL DIODES
footprint SO-G3 (SOT-23; 3 Leads; Body 3.0 x 2.6 mm, inc. leads (LxW max))
pins: 1 K, 2 K, 3 A

## MOCD207M
designator U?, comment MODC207M
70V光耦
footprint SOIC8(MOCD207M)
pins: 1 A, 2 K, 3 A, 4 K, 5, 6, 7, 8

## MPX4250A
designator PS?
footprint Case482 (MPX4250A)
pins: 2 Vss, 3 GND, 4 Vout
text: IPS

## MPX5700
designator PS?
footprint CASE867F-03 (MPX5700)
pins: 1 Vout, 2 GND (power), 3 Vss (power)
text: IPS

## NCP4894
designator U?, comment value NCP4894  (hidden comment: AUDIO AMPLIFIER)
Company: ON
footprint TSSO3x5-G10 (Shrink Small Outline; 10 Leads; Body Width 3 mm; Pitch 0.5 mm)
pins: 1 SD SEL (in), 2 IN M (in), 3 SD MOD (in), 4 IN P (in), 5 BYPASS (in), 6 OUTB (out), 7 VM (power), 8 NC, 9 VP (power), 10 OUTA (out)

## OPA140AID
designator U?
11MHz JFET OP Amp
footprint SO-G8 (Small Outline; 8 Leads; Body Width 3.9 mm; Pitch 1.27 mm)
pins: 2 IN-, 3 IN+, 4 V-, 6 OUT, 7 V+

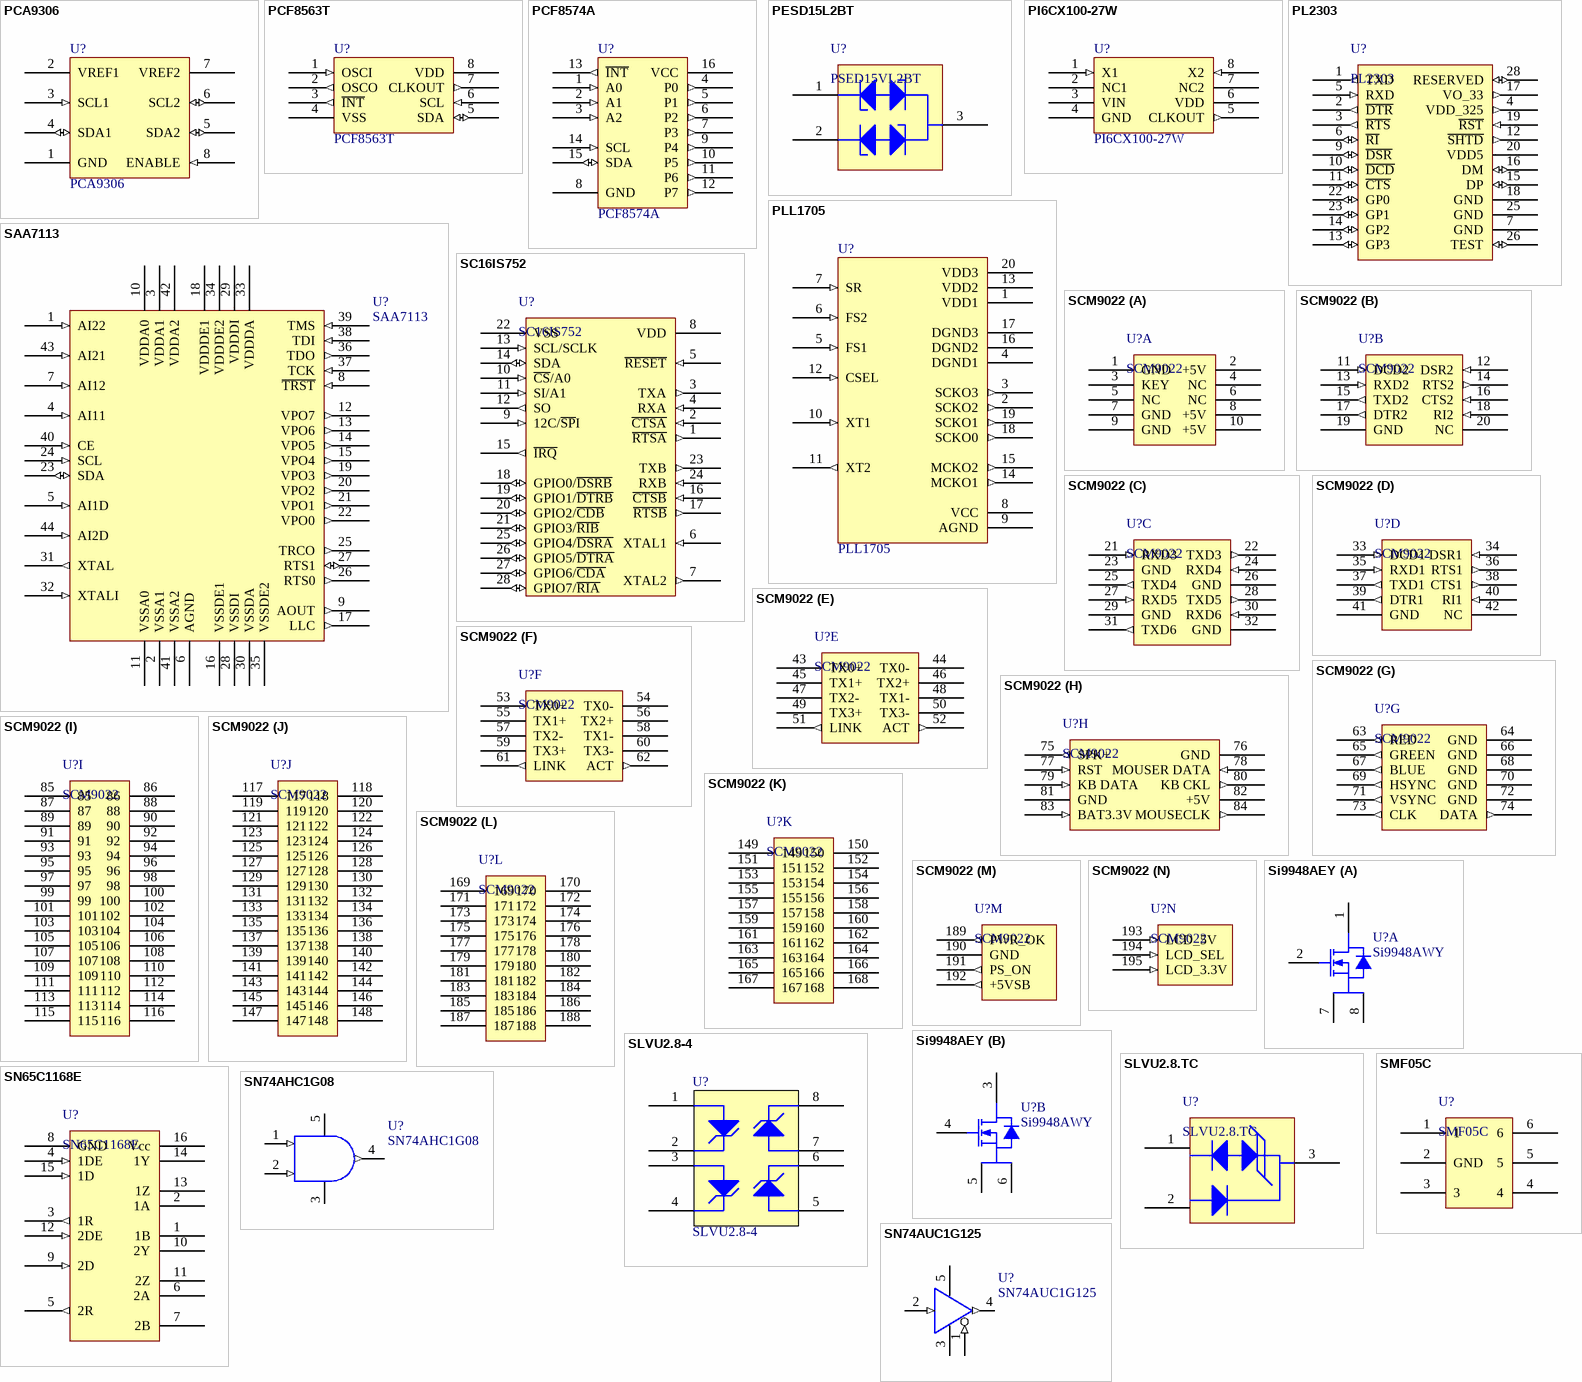
[diagram p4: symbols PCA9306 to SN74AUC1G125]

## PCA9306
designator U?, comment value PCA9306  (hidden comment: I2C TRANSLATOR)
Company: TI
footprint R-PDSO-G8 (FOR TI's DCT)
pins: 1 GND (power), 2 VREF1 (power), 3 SCL1 (in), 4 SDA1 (io), 5 SDA2 (io), 6 SCL2 (io), 7 VREF2 (power), 8 ENABLE (in)

## PCF8563T
designator U?
footprint SO-G8 (Small Outline; 8 Leads; Body Width 3.9 mm; Pitch 1.27 mm)
pins: 1 OSCI (in), 2 OSCO (out), 3 ~{INT} (out), 4 VSS (power), 5 SDA (io), 6 SCL (in), 7 CLKOUT (out), 8 VDD (power)

## PCF8574A
designator U?, comment value PCF8574A  (hidden comment: I/O I2C EXPANDER)
Company: TI
footprint SO-G16/Z11.4 (Small Outline; 16 Leads; Body Width 7.5 mm; Pitch 1.27 mm)
pins: 1 A0 (in), 2 A1 (in), 3 A2 (in), 4 P0 (out), 5 P1 (out), 6 P2 (out), 7 P3 (out), 8 GND (power), 9 P4 (out), 10 P5 (out), 11 P6 (out), 12 P7 (out), 13 ~{INT} (out), 14 SCL (in), 15 SDA (io), 16 VCC (power)

## PESD15L2BT
designator U?, comment PSED15VL2BT
ESD protect Diodes
footprint SO-G3 (SOT-23; 3 Leads; Body 3.0 x 2.6 mm, inc. leads (LxW max))
pins: 1, 2, 3

## PI6CX100-27W
designator U?, comment value PI6CX100-27W  (hidden comment: VCXO)
Company: PERICOM
footprint SO-G8 (Small Outline; 8 Leads; Body Width 3.9 mm; Pitch 1.27 mm)
pins: 1 X1 (in), 2 NC1, 3 VIN (power), 4 GND (power), 5 CLKOUT (out), 6 VDD (power), 7 NC2, 8 X2 (in)

## PL2303
designator U?
footprint TSOP65P640-28AM (TSOP, 28-Leads, Body 9.7x4.4mm, Pitch 0.65mm, IPC Low Density)
pins: 1 TXD (out), 2 ~{DTR} (out), 3 ~{RTS} (out), 4 VDD_325 (out), 5 RXD (in), 6 ~{RI} (io), 7 GND, 9 ~{DSR} (io), 10 ~{DCD} (io), 11 ~{CTS} (io), 12 ~{SHTD} (out), 13 GP3 (io), 14 GP2 (io), 15 DP (io), 16 DM (io), 17 VO_33 (out), 18 GND, 19 ~{RST} (in), 20 VDD5, 22 GP0 (io), 23 GP1 (io), 25 GND, 26 TEST (io), 28 RESERVED (io)

## PLL1705
designator U?, comment value PLL1705  (hidden comment: MULTICLOCK GENERATOR)
3 PLL MULTICLOCK GENERATOR; Company: TI
footprint TSSO8X6-G24/D7.9 (FOR PLL1705)
pins: 1 VDD1 (power), 2 SCKO2 (out), 3 SCKO3 (out), 4 DGND1 (power), 5 FS1 (in), 6 FS2 (in), 7 SR (in), 8 VCC (power), 9 AGND (power), 10 XT1 (in), 11 XT2 (out), 12 CSEL (in), 13 VDD2 (power), 14 MCKO1 (out), 15 MCKO2 (out), 16 DGND2 (power), 17 DGND3 (power), 18 SCKO0 (out), 19 SCKO1 (out), 20 VDD3 (power)

## SAA7113
designator U?
footprint QFP10x10-G44/G10N (QFP, Metric; 44 Leads; Body 10 x 10 mm; Pitch 0.8 mm)
pins: 1 AI22 (in), 2 VSSA1 (power), 3 VDDA1 (power), 4 AI11 (in), 5 AI1D (in), 6 AGND (power), 7 AI12 (in), 8 ~{TRST} (in), 9 AOUT (out), 10 VDDA0 (power), 11 VSSA0 (power), 12 VPO7 (out), 13 VPO6 (out), 14 VPO5 (out), 15 VPO4 (out), 16 VSSDE1 (power), 17 LLC (out), 18 VDDDE1 (power), 19 VPO3 (out), 20 VPO2 (out), 21 VPO1 (out), 22 VPO0 (out), 23 SDA (io), 24 SCL (in), 25 TRCO (out), 26 RTS0 (out), 27 RTS1 (io), 28 VSSDI (power), 29 VDDDI (power), 30 VSSDA (power), 31 XTAL (out), 32 XTALI (in), 33 VDDDA (power), 34 VDDDE2 (power), 35 VSSDE2 (power), 36 TDO (out), 37 TCK (in), 38 TDI (in), 39 TMS (in), 40 CE (in), 41 VSSA2 (power), 42 VDDA2 (power), 43 AI21 (in), 44 AI2D (in)

## SC16IS752
designator U?
DUAL UART WITH I2C/SPI INTERFACE
footprint SSOP28/W5.3mm (28 LEADS BODY WIDTH 5.3MM)
pins: 1 ~{RTSA} (out), 2 ~{CTSA} (in), 3 TXA (out), 4 RXA (in), 5 ~{RESET} (in), 6 XTAL1 (in), 7 XTAL2 (out), 8 VDD (power), 9 12C/~{SP}I (in), 10 ~{CS}/A0 (in), 11 SI/A1 (in), 12 SO (out), 13 SCL/SCLK (in), 14 SDA (io), 15 ~{IRQ} (out), 16 ~{CTSB} (in), 17 ~{RTSB} (out), 18 GPIO0/~{DSRB} (io), 19 GPIO1/~{DTRB} (io), 20 GPIO2/~{CDB} (io), 21 GPIO3/~{RIB} (io), 22 VSS (power), 23 TXB (out), 24 RXB (in), 25 GPIO4/~{DSRA} (io), 26 GPIO5/~{DTRA} (io), 27 GPIO6/~{CDA} (io), 28 GPIO7/~{RIA} (io)

## SCM9022
designator U?
PC104 MODULE
footprint SCM-9022 (PC104)
part A pins: 1 GND, 2 +5V, 3 KEY, 4 NC, 5 NC, 6 NC, 7 GND, 8 +5V, 9 GND, 10 +5V
part B pins: 11 DCD2 (in), 12 DSR2 (in), 13 RXD2 (in), 14 RTS2 (out), 15 TXD2 (out), 16 CTS2 (in), 17 DTR2 (out), 18 RI2 (in), 19 GND, 20 NC
part C pins: 21 RXD3 (in), 22 TXD3 (out), 23 GND, 24 RXD4 (in), 25 TXD4 (out), 26 GND, 27 RXD5 (in), 28 TXD5 (out), 29 GND, 30 RXD6 (in), 31 TXD6 (out), 32 GND
part D pins: 33 DCD1 (in), 34 DSR1 (in), 35 RXD1 (in), 36 RTS1 (out), 37 TXD1 (out), 38 CTS1 (out), 39 DTR1 (out), 40 RI1 (in), 41 GND, 42 NC
part E pins: 43 TX0+, 44 TX0-, 45 TX1+, 46 TX2+, 47 TX2-, 48 TX1-, 49 TX3+, 50 TX3-, 51 LINK (out), 52 ACT (out)
part F pins: 53 TX0+, 54 TX0-, 55 TX1+, 56 TX2+, 57 TX2-, 58 TX1-, 59 TX3+, 60 TX3-, 61 LINK (out), 62 ACT (out)
part G pins: 63 RED (out), 64 GND, 65 GREEN (out), 66 GND, 67 BLUE (out), 68 GND, 69 HSYNC (out), 70 GND, 71 VSYNC (out), 72 GND, 73 CLK (out), 74 DATA (out)
part H pins: 75 SPK+ (out), 76 GND (power), 77 RST (in), 78 MOUSER DATA (in), 79 KB DATA (in), 80 KB CKL (out), 81 GND, 82 +5V, 83 BAT3.3V (in), 84 MOUSECLK (out)
part I pins: 85, 86, 87, 88, 89, 90, 91, 92, 93, 94, 95, 96, 97, 98, 99, 100, 101, 102, 103, 104, 105, 106, 107, 108, 109, 110, 111, 112, 113, 114, 115, 116
part J pins: 117, 118, 119, 120, 121, 122, 123, 124, 125, 126, 127, 128, 129, 130, 131, 132, 133, 134, 135, 136, 137, 138, 139, 140, 141, 142, 143, 144, 145, 146, 147, 148
part K pins: 149, 150, 151, 152, 153, 154, 155, 156, 157, 158, 159, 160, 161, 162, 163, 164, 165, 166, 167, 168
part L pins: 169, 170, 171, 172, 173, 174, 175, 176, 177, 178, 179, 180, 181, 182, 183, 184, 185, 186, 187, 188
part M pins: 189 PWR_OK (out), 190 GND (power), 191 PS_ON (out), 192 +5VSB (out)
part N pins: 193 LCD_5V (in), 194 LCD_SEL (in), 195 LCD_3.3V (in)

## Si9948AEY
designator U?, comment Si9948AWY
Dual P-Channel MOSFET 60V; Company: VISHAY
footprint SO-G8 (Small Outline; 8 Leads; Body Width 3.9 mm; Pitch 1.27 mm)
part A pins: 1 S1, 2 G1, 7 D1, 8 D1
part B pins: 3 S2, 4 G2, 5 D2, 6 D2

## SLVU2.8-4
designator U?, comment value SLVU2.8-4  (hidden comment: TVS ARRAY)
ULTRA LOW CAPACITANCE TVS ARRAY
footprint SO-G8/Y1.9 (Small Outline; 8 Leads; Body Width 3.9 mm; Pitch 1.27 mm)
pins: 1, 2, 3, 4, 5, 6, 7, 8

## SLVU2.8.TC
designator U?
LOW VOLTAGE EPD TVS DIODE
footprint SO-G3 (SOT-23; 3 Leads; Body 3.0 x 2.6 mm, inc. leads (LxW max))
pins: 1, 2, 3 0

## SMF05C
designator U?
TVS DIODE ARRAY
footprint SC70-6L
pins: 1, 2 GND, 3, 4, 5, 6

## SN65C1168E
designator U?
DUAL DIFFERENTIAL DRIVERS AND RECIEVERS
footprint SO-G16/Y1.8 (Small Outline; 16 Leads; Body Width 5.3 mm; Pitch 1.27 mm)
pins: 1 1B, 2 1A, 3 1R (out), 4 1DE (in), 5 2R (out), 6 2A, 7 2B, 8 GND (power), 9 2D (in), 10 2Y, 11 2Z, 12 2DE (in), 13 1Z, 14 1Y, 15 1D (in), 16 Vcc (power)

## SN74AHC1G08
designator U?, comment value SN74AHC1G08  (hidden comment: POSITIVE-AND GATE)
Company: TI
footprint SO-G5/P.65 (SOT-353/SC-88A; 5 Leads; Body 2.1 x 2.4 mm, inc. leads (LxW max))
pins: 1 A (in), 2 B (in), 3 GND (power), 4 Y (out), 5 VCC (power)

## SN74AUC1G125
designator U?, comment value SN74AUC1G125  (hidden comment: BUFFER GATE)
Company: TI
footprint SO-G5/P.65 (SOT-353/SC-88A; 5 Leads; Body 2.1 x 2.4 mm, inc. leads (LxW max))
pins: 1 ~{OE} (in), 2 A (in), 3 GND (power), 4 Y (out), 5 VCC (power)

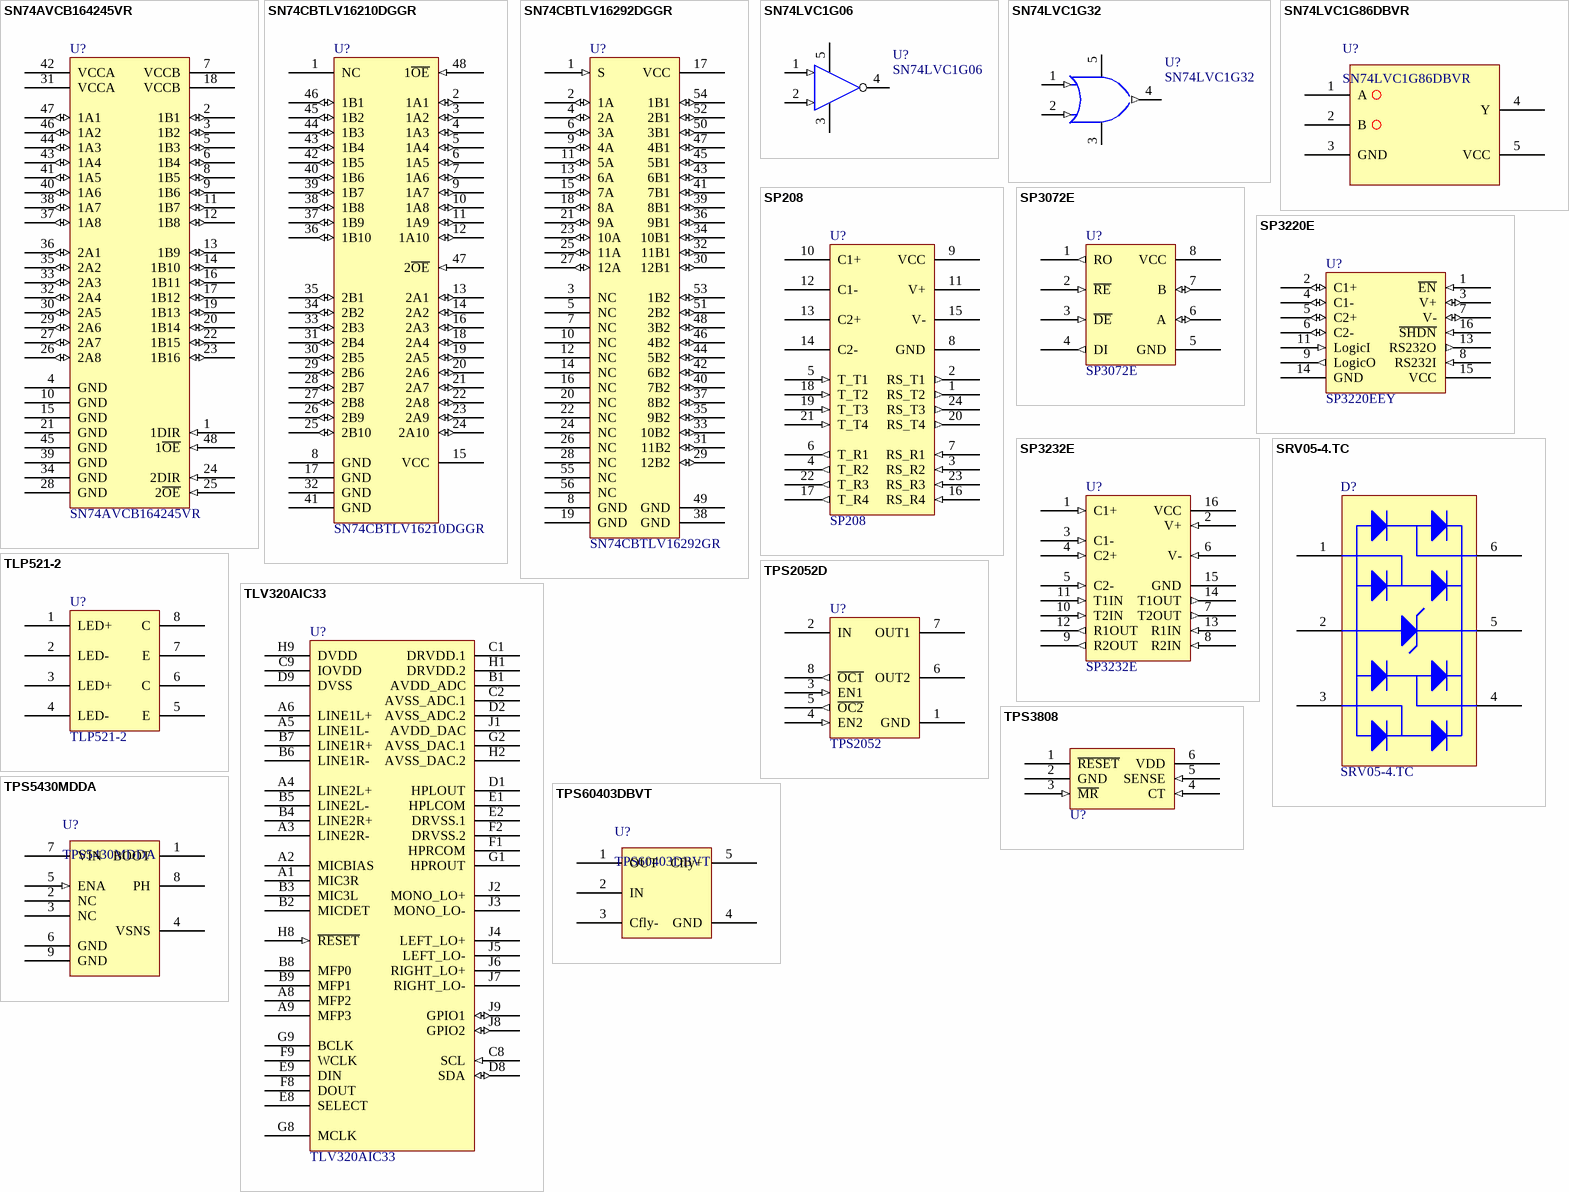
[diagram p5: symbols SN74AVCB164245VR to TPS60403DBVT]

## SN74AVCB164245VR
designator U?, comment value SN74AVCB164245VR  (hidden comment: 16-BIT DUAL-SUPPLY BUS TRANSCEIVER)
Company: TI
footprint TSSO12x8-G48/X.3 (Shrink Small Outline; 48 Leads; Body Width 6.1 mm; Pitch 0.5 mm)
pins: 1 1DIR (in), 2 1B1 (io), 3 1B2 (io), 4 GND (power), 5 1B3 (io), 6 1B4 (io), 7 VCCB (power), 8 1B5 (io), 9 1B6 (io), 10 GND (power), 11 1B7 (io), 12 1B8 (io), 13 1B9 (io), 14 1B10 (io), 15 GND (power), 16 1B11 (io), 17 1B12 (io), 18 VCCB (power), 19 1B13 (io), 20 1B14 (io), 21 GND (power), 22 1B15 (io), 23 1B16 (io), 24 2DIR (in), 25 2~{OE} (in), 26 2A8 (io), 27 2A7 (io), 28 GND (power), 29 2A6 (io), 30 2A5 (io), 31 VCCA (power), 32 2A4 (io), 33 2A3 (io), 34 GND (power), 35 2A2 (io), 36 2A1 (io), 37 1A8 (io), 38 1A7 (io), 39 GND (power), 40 1A6 (io), 41 1A5 (io), 42 VCCA (power), 43 1A4 (io), 44 1A3 (io), 45 GND (power), 46 1A2 (io), 47 1A1 (io), 48 1~{OE} (in)

## SN74CBTLV16210DGGR
designator U?, comment value SN74CBTLV16210DGGR  (hidden comment: BUS SWITCH)
Company: TI
footprint TSSO12x8-G48/X.3 (Shrink Small Outline; 48 Leads; Body Width 6.1 mm; Pitch 0.5 mm)
pins: 1 NC, 2 1A1 (io), 3 1A2 (io), 4 1A3 (io), 5 1A4 (io), 6 1A5 (io), 7 1A6 (io), 8 GND (power), 9 1A7 (io), 10 1A8 (io), 11 1A9 (io), 12 1A10 (io), 13 2A1 (io), 14 2A2 (io), 15 VCC (power), 16 2A3 (io), 17 GND (power), 18 2A4 (io), 19 2A5 (io), 20 2A6 (io), 21 2A7 (io), 22 2A8 (io), 23 2A9 (io), 24 2A10 (io), 25 2B10 (io), 26 2B9 (io), 27 2B8 (io), 28 2B7 (io), 29 2B6 (io), 30 2B5 (io), 31 2B4 (io), 32 GND (power), 33 2B3 (io), 34 2B2 (io), 35 2B1 (io), 36 1B10 (io), 37 1B9 (io), 38 1B8 (io), 39 1B7 (io), 40 1B6 (io), 41 GND (power), 42 1B5 (io), 43 1B4 (io), 44 1B3 (io), 45 1B2 (io), 46 1B1 (io), 47 2~{OE} (in), 48 1~{OE} (in)

## SN74CBTLV16292DGGR
designator U?, comment value SN74CBTLV16292GR  (hidden comment: MUL/DEMULTIPLEXER)
Company: TI
footprint TSSO12x8-G48/X.3 (Shrink Small Outline; 48 Leads; Body Width 6.1 mm; Pitch 0.5 mm)
pins: 1 S (in), 2 1A (io), 3 NC, 4 2A (io), 5 NC, 6 3A (io), 7 NC (power), 8 GND (power), 9 4A (io), 10 NC, 11 5A (io), 12 NC, 13 6A (io), 14 NC, 15 7A (io), 16 NC, 17 VCC (power), 18 8A (io), 19 GND (power), 20 NC, 21 9A (io), 22 NC, 23 10A (io), 24 NC, 25 11A (io), 26 NC, 27 12A (io), 28 NC, 29 12B2 (io), 30 12B1 (io), 31 11B2 (io), 32 11B1 (io), 33 10B2 (io), 34 10B1 (io), 35 9B2 (io), 36 9B1 (io), 37 8B2 (io), 38 GND (power), 39 8B1 (io), 40 7B2 (io), 41 7B1 (io), 42 6B2 (io), 43 6B1 (io), 44 5B2 (io), 45 5B1 (io), 46 4B2 (io), 47 4B1 (io), 48 3B2 (io), 49 GND (power), 50 3B1 (io), 51 2B2 (io), 52 2B1 (io), 53 1B2 (io), 54 1B1 (io), 55 NC, 56 NC

## SN74LVC1G06
designator U?, comment value SN74LVC1G06  (hidden comment: INVERTER)
INVERTER WITH OPEN-DRAIN OUTPUT; Company: TI
footprint SO-G5/P.65 (SOT-353/SC-88A; 5 Leads; Body 2.1 x 2.4 mm, inc. leads (LxW max))
pins: 1 A (in), 2 B (in), 3 GND (power), 4 Y (oc), 5 VCC (power)

## SN74LVC1G32
designator U?, comment Valuw: SN74LVC1G32  (hidden comment: POSITIVE OR GATE)
Company: TI
footprint SO-G5/P.65 (SOT-353/SC-88A; 5 Leads; Body 2.1 x 2.4 mm, inc. leads (LxW max))
pins: 1 A (in), 2 B (in), 3 GND (power), 4 Y (out), 5 VCC (power)

## SN74LVC1G86DBVR
designator U?
SINGLE 2 INPUT EXLUSIVE-OR GATE
footprint SOT23-5AM (SOT23, 5-Leads, Body 2.9x1.7mm, Pitch 0.95mm, Lead Span 2.8mm, IPC Low Density)
pins: 1 A, 2 B, 3 GND, 4 Y, 5 VCC

## SP208
designator U?
5V 4CHANNEL RS232 TRANSCEIVER
footprint SSO-G24/D8.4 (SSOP; 24 Leads; Body Width 5.3 mm; Pitch 0.65 mm)
pins: 1 RS_T2 (out), 2 RS_T1 (out), 3 RS_R2 (in), 4 T_R2 (out), 5 T_T1 (in), 6 T_R1 (out), 7 RS_R1 (in), 8 GND (power), 9 VCC (power), 10 C1+, 11 V+, 12 C1-, 13 C2+, 14 C2-, 15 V-, 16 RS_R4 (in), 17 T_R4 (out), 18 T_T2 (in), 19 T_T3 (in), 20 RS_T4 (out), 21 T_T4 (in), 22 T_R3 (out), 23 RS_R3 (in), 24 RS_T3 (out)

## SP3072E
designator U?
footprint SO-G8 (Small Outline; 8 Leads; Body Width 3.9 mm; Pitch 1.27 mm)
pins: 1 RO (out), 2 ~{RE} (in), 3 ~{DE} (in), 4 DI (out), 5 GND (power), 6 A (io), 7 B (io), 8 VCC (power)

## SP3220E
designator U?, comment SP3220EEY
footprint TSSO5x6-G16 (Shrink Small Outline; 16 Leads; Body Width 4.4 mm; Pitch 0.65 mm)
pins: 1 ~{EN} (in), 2 C1+ (io), 3 V+ (io), 4 C1- (io), 5 C2+ (io), 6 C2- (io), 7 V- (io), 8 RS232I (in), 9 LogicO (out), 11 LogicI (in), 13 RS232O (out), 14 GND (power), 15 VCC (power), 16 ~{SHDN} (in)

## SP3232E
designator U?
Company: SIPEX
footprint TSSOP-16
pins: 1 C1+ (in), 2 V+ (in), 3 C1- (in), 4 C2+ (in), 5 C2- (in), 6 V- (in), 7 T2OUT (out), 8 R2IN (in), 9 R2OUT (out), 10 T2IN (in), 11 T1IN (in), 12 R1OUT (out), 13 R1IN (in), 14 T1OUT (out), 15 GND (power), 16 VCC (power)

## SRV05-4.TC
designator D?
TVS DIODE ARRAY
footprint SO-G6/P.95 (SOT-457/SC-74; 6 Leads; Body 3.1 x 3 mm, inc. leads (LxW max))
pins: 1, 2, 3, 4, 5, 6

## TLP521-2
designator U?
pins: 1 LED+, 2 LED-, 3 LED+, 4 LED-, 5 E, 6 C, 7 E, 8 C

## TLV320AIC33
designator U?, comment value TLV320AIC33  (hidden comment: AUDIO CODEC)
Company: TI
footprint 80PBGA (FOR TI TLV320AIC33)
pins: A1 MIC3R, A2 MICBIAS, A3 LINE2R-, A4 LINE2L+, A5 LINE1L-, A6 LINE1L+, A8 MFP2, A9 MFP3, B1 AVDD_ADC (power), B2 MICDET, B3 MIC3L, B4 LINE2R+, B5 LINE2L-, B6 LINE1R-, B7 LINE1R+, B8 MFP0, B9 MFP1, C1 DRVDD.1 (power), C2 AVSS_ADC.1 (power), C8 SCL (in), C9 IOVDD (power), D1 HPLOUT, D2 AVSS_ADC.2 (power), D8 SDA (io), D9 DVSS (power), E1 HPLCOM, E2 DRVSS.1 (power), E8 SELECT, E9 DIN, F1 HPRCOM, F2 DRVSS.2 (power), F8 DOUT, F9 WCLK, G1 HPROUT, G2 AVSS_DAC.1 (power), G8 MCLK, G9 BCLK, H1 DRVDD.2 (power), H2 AVSS_DAC.2 (power), H8 ~{RESET} (in), H9 DVDD (power), J1 AVDD_DAC (power), J2 MONO_LO+, J3 MONO_LO-, J4 LEFT_LO+, J5 LEFT_LO-, J6 RIGHT_LO+, J7 RIGHT_LO-, J8 GPIO2 (io), J9 GPIO1 (io)

## TPS2052D
designator U?, comment TPS2052
TPS2052 IS POSOTIVE CONTROL AND TPS2042 IS OPPOSITE
footprint SO-G8/D5 (Small Outline, Narrow; 8 Leads; Body Width 3.9 mm; Pitch 1.27 mm)
pins: 1 GND (power), 2 IN (power), 3 EN1 (in), 4 EN2 (in), 5 ~{OC2} (out), 6 OUT2 (power), 7 OUT1 (power), 8 ~{OC1} (out)

## TPS3808
designator U?, comment SUPERVISORY CIRCUIT  (value not drawn)
VOLTAGE SENSE AND RESET; Value: TPS3808G09DBVR; Company: TI
footprint SO-G6/E2.4 (Small Outline; 6 Leads; Body 3.6 x 3.6 mm, inc. leads (LxW max))
pins: 1 ~{RESET} (oc), 2 GND (power), 3 ~{MR} (in), 4 CT (in), 5 SENSE (in), 6 VDD (power)

## TPS5430MDDA
designator U?
3A,DCDC CONVERTER
footprint SOIC127P600X170_HS-8N (SOIC, 8-Leads, Body 6.0x4.0mm (max), Pitch 1.27mm, IPC Medium Density)
pins: 1 BOOT, 2 NC, 3 NC, 4 VSNS, 5 ENA (in), 6 GND, 7 VIN, 8 PH, 9 GND

## TPS60403DBVT
designator U?
60-mA CHARGE PUMP
footprint SOT23-5AL (SOT23, 5-Leads, Body 2.9x1.6mm, Pitch 0.95mm, Lead Span 2.8mm, IPC High Density)
pins: 1 OUT, 2 IN, 3 Cfly-, 4 GND, 5 Cfly+

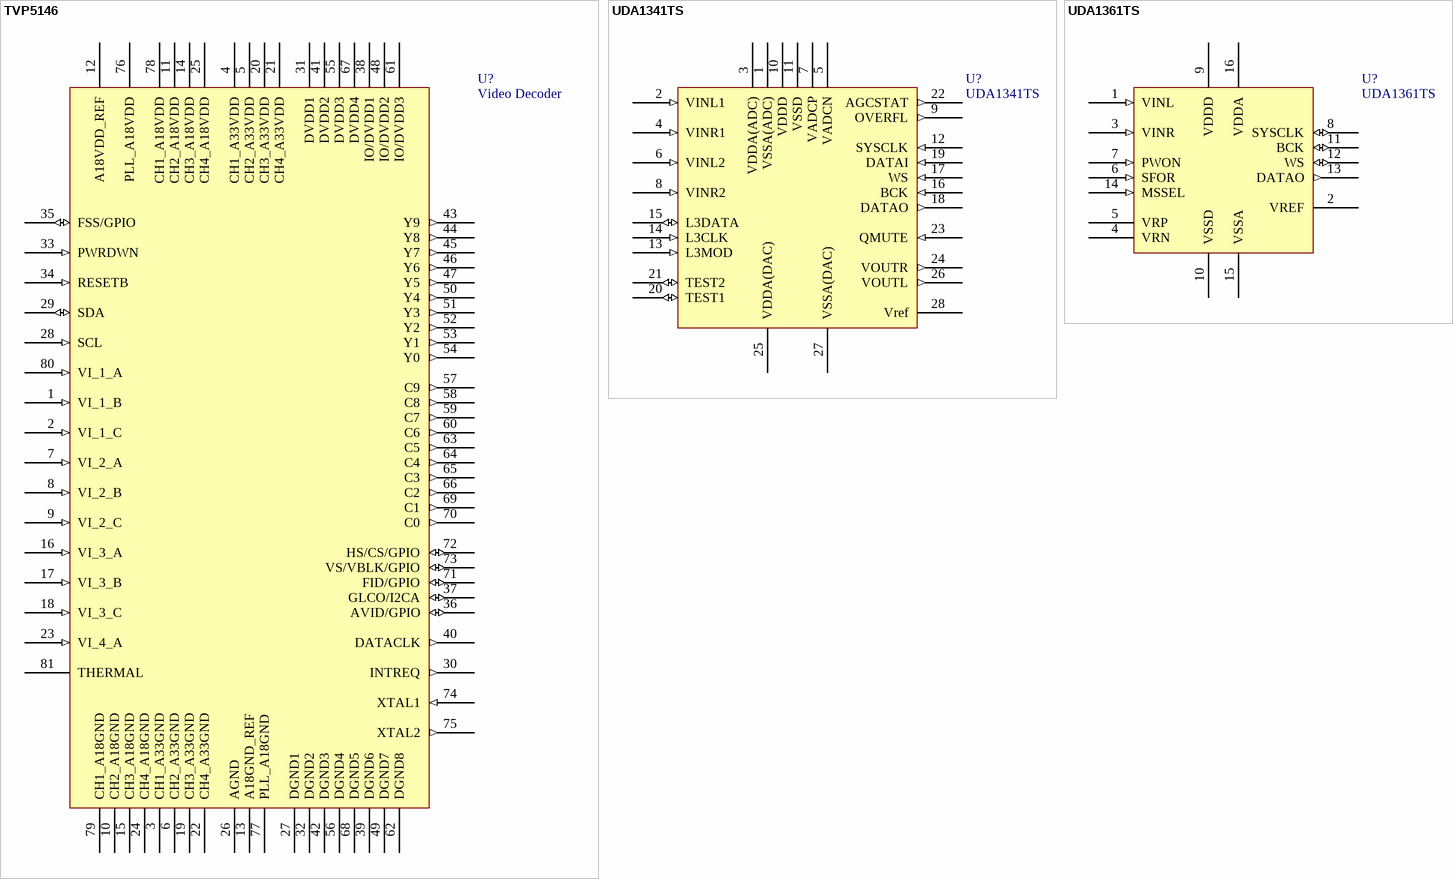
[diagram p6: symbols TVP5146 to UDA1361TS]

## TVP5146
designator U?, comment Video Decoder
Value: TVP5146; Company: TI
footprint PQFP4*20/80P (FOR TVP5146)
pins: 1 VI_1_B (in), 2 VI_1_C (in), 3 CH1_A33GND (power), 4 CH1_A33VDD (power), 5 CH2_A33VDD (power), 6 CH2_A33GND (power), 7 VI_2_A (in), 8 VI_2_B (in), 9 VI_2_C (in), 10 CH2_A18GND (power), 11 CH2_A18VDD (power), 12 A18VDD_REF (power), 13 A18GND_REF (power), 14 CH3_A18VDD (power), 15 CH3_A18GND (power), 16 VI_3_A (in), 17 VI_3_B (in), 18 VI_3_C (in), 19 CH3_A33GND (power), 20 CH3_A33VDD (power), 21 CH4_A33VDD (power), 22 CH4_A33GND (power), 23 VI_4_A (in), 24 CH4_A18GND (power), 25 CH4_A18VDD (power), 26 AGND (power), 27 DGND1 (power), 28 SCL (in), 29 SDA (io), 30 INTREQ (out), 31 DVDD1 (power), 32 DGND2 (power), 33 PWRDWN (in), 34 RESETB (in), 35 FSS/GPIO (io), 36 AVID/GPIO (io), 37 GLCO/I2CA (io), 38 IO/DVDD1 (power), 39 DGND6 (power), 40 DATACLK (out), 41 DVDD2 (power), 42 DGND3 (power), 43 Y9 (out), 44 Y8 (out), 45 Y7 (out), 46 Y6 (out), 47 Y5 (out), 48 IO/DVDD2 (power), 49 DGND7 (power), 50 Y4 (out), 51 Y3 (out), 52 Y2 (out), 53 Y1 (out), 54 Y0 (out), 55 DVDD3 (power), 56 DGND4 (power), 57 C9 (out), 58 C8 (out), 59 C7 (out), 60 C6 (out), 61 IO/DVDD3 (power), 62 DGND8 (power), 63 C5 (out), 64 C4 (out), 65 C3 (out), 66 C2 (out), 67 DVDD4 (power), 68 DGND5 (power), 69 C1 (out), 70 C0 (out), 71 FID/GPIO (io), 72 HS/CS/GPIO (io), 73 VS/VBLK/GPIO (io), 74 XTAL1 (in), 75 XTAL2 (out), 76 PLL_A18VDD (power), 77 PLL_A18GND (power), 78 CH1_A18VDD (power), 79 CH1_A18GND (power), 80 VI_1_A (in), 81 THERMAL

## UDA1341TS
designator U?
footprint SSOP28/W5.3mm (28 LEADS BODY WIDTH 5.3MM)
pins: 1 VSSA(ADC) (power), 2 VINL1 (in), 3 VDDA(ADC) (power), 4 VINR1 (in), 5 VADCN (power), 6 VINL2 (in), 7 VADCP (power), 8 VINR2 (in), 9 OVERFL (out), 10 VDDD (power), 11 VSSD (power), 12 SYSCLK (in), 13 L3MOD (in), 14 L3CLK (in), 15 L3DATA (io), 16 BCK (in), 17 WS (in), 18 DATAO (out), 19 DATAI (in), 20 TEST1 (io), 21 TEST2 (io), 22 AGCSTAT (out), 23 QMUTE (in), 24 VOUTR (out), 25 VDDA(DAC) (power), 26 VOUTL (out), 27 VSSA(DAC) (power), 28 Vref (power)

## UDA1361TS
designator U?
Value: UDA1361TS
footprint TSSO5x6-G16 (Shrink Small Outline; 16 Leads; Body Width 4.4 mm; Pitch 0.65 mm)
pins: 1 VINL (in), 2 VREF (power), 3 VINR (in), 4 VRN (power), 5 VRP (power), 6 SFOR (in), 7 PWON (in), 8 SYSCLK (io), 9 VDDD (power), 10 VSSD (power), 11 BCK (io), 12 WS (io), 13 DATAO (out), 14 MSSEL (in), 15 VSSA (power), 16 VDDA (power)